# Altium schematic symbol library new-version.SchLib: 263 symbols
Pins are listed as number, name and electrical type; pins without a type are passive.

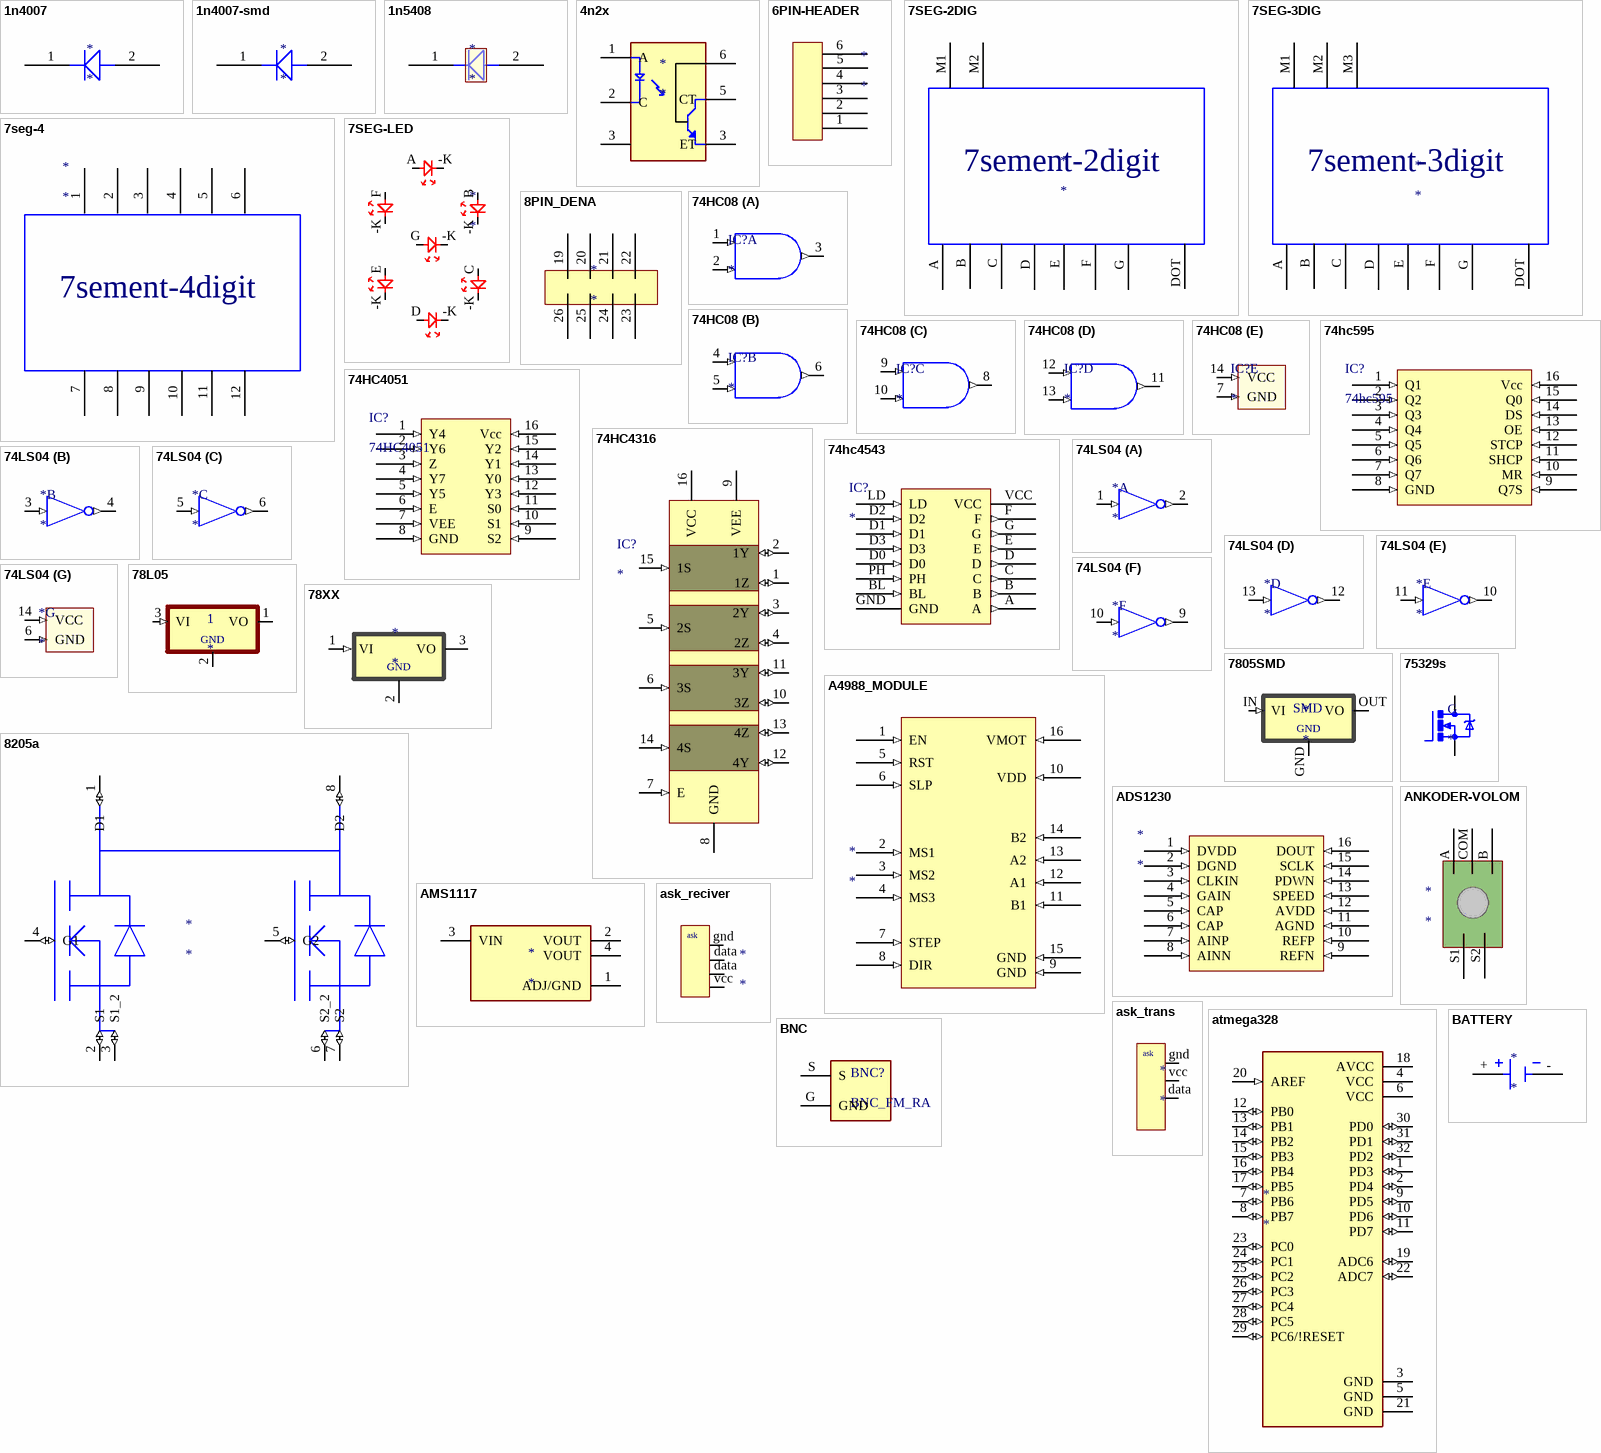
[diagram p0: symbols 1n4007 to BNC]

## 1n4007
designator *
footprint 1n4007
pins: 1, 2

## 1n4007-smd
designator *
footprint 1n4007-smd
pins: 1, 2

## 1n5408
designator *
footprint 1n5408
pins: 1, 2

## 4n2x
designator *
pins: 1 A, 2 C, 3 ET, 3 C, 5 CT, 6 CT

## 6PIN-HEADER
designator *
footprint 6PIN
pins: 1 (oc), 2 (oc), 3 (oc), 4 (oc), 5 (oc), 6 (oc)

## 7SEG-2DIG
designator *
footprint 7SEG-2DIG
pins: A  , B  , C  , D  , DOT  , E  , F  , G  , M1  , M2  
text: 7sement-2digit

## 7SEG-3DIG
designator *
footprint 7seg-3d
footprint 7SEG_3D_LITTLE
pins: A  , B  , C  , D  , DOT  , E  , F  , G  , M1  , M2  , M3  
text: 7sement-3digit

## 7seg-4
designator *
footprint 7seg-4digit
pins: 1  , 2  , 3  , 4  , 5  , 6  , 7  , 8  , 9  , 10  , 11  , 12  
text: 7sement-4digit

## 7SEG-LED
designator *
footprint 7SEG-LED
pins: -K, -K, -K, -K, -K, -K, -K, A, B, C, D, E, F, G

## 8PIN_DENA
designator *
footprint 8PIN_DENA
pins: 19 (oc), 20 (oc), 21 (oc), 22 (oc), 23 (oc), 24 (oc), 25 (oc), 26 (oc)

## 74HC08
designator IC?
footprint SOP-14
part A pins: 1 (in), 2 (in), 3 (out)
part B pins: 4 (in), 5 (in), 6 (out)
part C pins: 8 (out), 9 (in), 10 (in)
part D pins: 11 (out), 12 (in), 13 (in)
part E pins: 7 GND (in), 14 VCC (in)

## 74hc595
designator IC?
footprint SOP16
pins: 1 Q1 (in), 2 Q2 (in), 3 Q3 (in), 4 Q4 (in), 5 Q5 (in), 6 Q6 (in), 7 Q7 (in), 8 GND (in), 9 Q7S (in), 10 MR (in), 11 SHCP (in), 12 STCP (in), 13 OE (in), 14 DS (in), 15 Q0 (in), 16 Vcc (in)

## 74HC4051
designator IC?
Analog SWITCH
footprint SOP16
pins: 1 Y4 (in), 2 Y6 (in), 3 Z (in), 4 Y7 (in), 5 Y5 (in), 6 E (in), 7 VEE (in), 8 GND (in), 9 S2 (in), 10 S1 (in), 11 S0 (in), 12 Y3 (in), 13 Y0 (in), 14 Y1 (in), 15 Y2 (in), 16 Vcc (in)

## 74HC4316
designator IC?
footprint SOP16
pins: 1 1Z (io), 2 1Y (io), 3 2Y (io), 4 2Z (io), 5 2S (in), 6 3S (in), 7 E (in), 8 GND (power), 9 VEE (power), 10 3Z (io), 11 3Y (io), 12 4Y (io), 13 4Z (io), 14 4S (in), 15 1S (in), 16 VCC (power)

## 74hc4543
designator IC?
footprint 74HC4543-DIP
pins: A (out), B (out), BL (in), C (out), D (out), D0 (in), D1 (in), D2 (in), D3 (in), E (out), F (out), G (out), GND (power), LD (in), PH (in), VCC (power)

## 74LS04
designator *
part A pins: 1 A (in), 2 Y (out)
part B pins: 3 A (in), 4 Y (out)
part C pins: 5 A (in), 6 Y (out)
part D pins: 12 Y (out), 13 A (in)
part E pins: 10 Y (out), 11 A (in)
part F pins: 9 Y (out), 10 A (in)
part G pins: 6 GND (in), 14 VCC (in)

## 78L05
designator 1
footprint TO-220
pins: 1 VO, 2 GND, 3 VI (in)

## 78XX
designator *
footprint TO220AB
pins: 1 VI (in), 2 GND, 3 VO

## 7805SMD
designator *
footprint 7805-SMD
pins: GND, IN VI (in), OUT VO
text: SMD

## 8205a
designator *
footprint TSSOP8
pins: 1 D1 (io), 2 S1 (io), 3 S1_2 (io), 4 G1 (io), 5 G2 (io), 6 S2_2 (io), 7 S2 (io), 8 D2 (io)

## 75329s
designator G
footprint 75329s
pins: D, G, S

## A4988_MODULE
designator *
footprint A4988_MODULE
pins: 1 EN (in), 2 MS1 (in), 3 MS2 (in), 4 MS3 (in), 5 RST (in), 6 SLP (in), 7 STEP (in), 8 DIR (in), 9 GND (in), 10 VDD (in), 11 B1 (in), 12 A1 (in), 13 A2 (in), 14 B2 (in), 15 GND (in), 16 VMOT (in)

## ADS1230
designator *
footprint TSSOP-16
pins: 1 DVDD (in), 2 DGND (in), 3 CLKIN (in), 4 GAIN (in), 5 CAP (in), 6 CAP (in), 7 AINP (in), 8 AINN (in), 9 REFN (in), 10 REFP (in), 11 AGND (in), 12 AVDD (in), 13 SPEED (in), 14 PDWN (in), 15 SCLK (in), 16 DOUT (in)

## AMS1117
designator *
footprint AMS1117
pins: 1 ADJ/GND (power), 2 VOUT (power), 3 VIN (power), 4 VOUT (power)

## ANKODER-VOLOM
designator *
footprint ANKODER_VOLOM
pins: A  , B  , COM  , S1  , S2  

## ask_reciver
designator *
footprint ask_reciver
pins: data  , data  , gnd  , vcc  
text: ask

## ask_trans
designator *
footprint ask_tras
pins: data  , gnd  , vcc  
text: ask

## atmega328
designator *
footprint atmega328_ TQFP-32
pins: 1 PD3 (io), 2 PD4 (io), 3 GND (power), 4 VCC (power), 5 GND (power), 6 VCC (power), 7 PB6 (io), 8 PB7 (io), 9 PD5 (io), 10 PD6 (io), 11 PD7 (io), 12 PB0 (io), 13 PB1 (io), 14 PB2 (io), 15 PB3 (io), 16 PB4 (io), 17 PB5 (io), 18 AVCC (power), 19 ADC6 (io), 20 AREF (in), 21 GND (power), 22 ADC7 (io), 23 PC0 (io), 24 PC1 (io), 25 PC2 (io), 26 PC3 (io), 27 PC4 (io), 28 PC5 (io), 29 PC6/!RESET (io), 30 PD0 (io), 31 PD1 (io), 32 PD2 (io)

## BATTERY
designator *
footprint CR2032
pins: + POS, - NEG

## BNC
designator BNC?, comment BNC_FM_RA
footprint BNC_FM_RA
pins: G GND (power), S

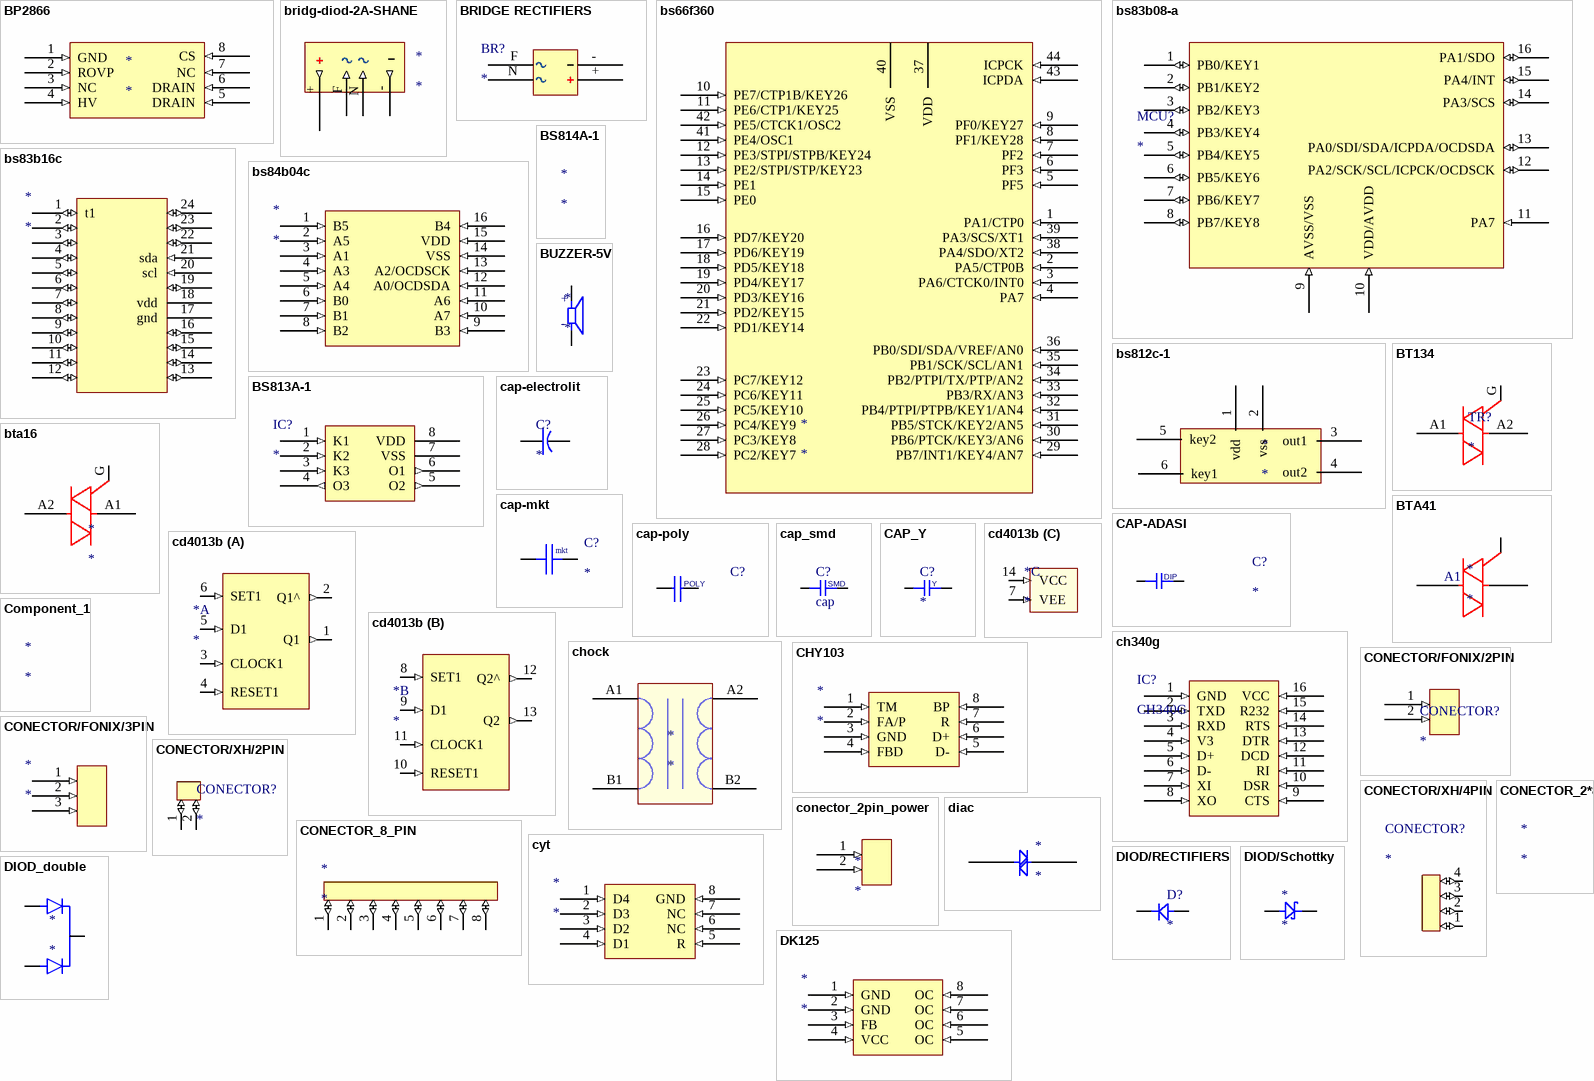
[diagram p1: symbols BP2866 to DK125]

## BP2866
designator *
footprint SOP-8
pins: 1 GND (in), 2 ROVP (in), 3 NC (in), 4 HV (in), 5 DRAIN (in), 6 DRAIN (in), 7 NC (in), 8 CS (in)

## bridg-diod-2A-SHANE
designator *
footprint bridg-diod-2A-SHANE
pins: + (out), - (out), F   (in), N (in)

## BRIDGE RECTIFIERS
designator BR?
footprint MB6S/SMD
footprint BRIDGE_GBU410
footprint KBP206
pins: + (power), - (power), F   (power), N (power)

## bs66f360
designator *
footprint bs66f360
pins: 1 PA1/CTP0 (in), 2 PA5/CTP0B (in), 3 PA6/CTCK0/INT0 (in), 4 PA7 (in), 5 PF5 (in), 6 PF3 (in), 7 PF2 (in), 8 PF1/KEY28 (in), 9 PF0/KEY27 (in), 10 PE7/CTP1B/KEY26 (in), 11 PE6/CTP1/KEY25 (in), 12 PE3/STPI/STPB/KEY24 (in), 13 PE2/STPI/STP/KEY23 (in), 14 PE1 (in), 15 PE0 (in), 16 PD7/KEY20 (in), 17 PD6/KEY19 (in), 18 PD5/KEY18 (in), 19 PD4/KEY17 (in), 20 PD3/KEY16 (in), 21 PD2/KEY15 (in), 22 PD1/KEY14 (in), 23 PC7/KEY12 (in), 24 PC6/KEY11 (in), 25 PC5/KEY10 (in), 26 PC4/KEY9 (in), 27 PC3/KEY8 (in), 28 PC2/KEY7 (in), 29 PB7/INT1/KEY4/AN7 (in), 30 PB6/PTCK/KEY3/AN6 (in), 31 PB5/STCK/KEY2/AN5 (in), 32 PB4/PTPI/PTPB/KEY1/AN4 (in), 33 PB3/RX/AN3 (in), 34 PB2/PTPI/TX/PTP/AN2 (in), 35 PB1/SCK/SCL/AN1 (in), 36 PB0/SDI/SDA/VREF/AN0 (in), 37 VDD (power), 38 PA4/SDO/XT2 (in), 39 PA3/SCS/XT1 (in), 40 VSS (power), 41 PE4/OSC1 (in), 42 PE5/CTCK1/OSC2 (in), 43 ICPDA (in) "SDA", 44 ICPCK (in) "SCK"

## bs83b08-a
designator MCU?
footprint bs83b08-a
pins: 1 PB0/KEY1 (io), 2 PB1/KEY2 (io), 3 PB2/KEY3 (io), 4 PB3/KEY4 (io), 5 PB4/KEY5 (io), 6 PB5/KEY6 (io), 7 PB6/KEY7 (io), 8 PB7/KEY8 (io), 9 AVSS/VSS (in), 10 VDD/AVDD (in), 11 PA7 (in), 12 PA2/SCK/SCL/ICPCK/OCDSCK (io), 13 PA0/SDI/SDA/ICPDA/OCDSDA (io), 14 PA3/SCS (io), 15 PA4/INT (io), 16 PA1/SDO (io)

## bs83b16c
designator *
footprint bs83b16c
pins: 1 t1 (io), 2 (io), 3 (io), 4 (io), 5 (io), 6 (io), 7 (io), 8 (io), 9 (io), 10 (io), 11 (io), 12 (io), 13 (io), 14 (io), 15 (io), 16 (io), 17 gnd (power), 18 vdd (power), 19 (io), 20 scl (in), 21 sda (in), 22 (io), 23 (io), 24 (io)

## bs84b04c
designator *
footprint SOP16
pins: 1 B5 (in), 2 A5 (in), 3 A1 (in), 4 A3 (in), 5 A4 (in), 6 B0 (in), 7 B1 (in), 8 B2 (in), 9 B3 (in), 10 A7 (in), 11 A6 (in), 12 A0/OCDSDA (in), 13 A2/OCDSCK (in), 14 VSS (in), 15 VDD (in), 16 B4 (in)

## bs812c-1
designator *
footprint bs812c-1
footprint bs812c-1
pins: 1 vdd, 2  vss, 3 out1, 4 out2, 5 key2, 6 key1

## BS813A-1
designator IC?
footprint SOP-8
pins: 1 K1 (in), 2 K2 (in), 3 K3 (in), 4 O3 (out), 5 O2 (out), 6 O1 (out), 7 VSS (power), 8 VDD (power)

## BS814A-1
designator *

## BT134
designator TR?
footprint bt134
pins: A1, A2, G

## bta16
designator *
footprint bta16
footprint BTA16-V2\ (Triak v2)
footprint BTA16-V3 - duplicate
footprint BTA16_TOPOL
footprint BTA16_KIRI
pins: A1, A2, G

## BTA41
designator *
footprint TOP3
pins: 1 A1, 2, 3

## BUZZER-5V
designator *
footprint BUZZER-5V
pins: N, P
text: +; -

## CAP-ADASI
designator C?
footprint CAP-100NF
footprint CAP_CERAMIC
pins: 1  , 2  
text: DIP

## cap-electrolit
designator C?
footprint cap/330u/16v
footprint CAP/2200U/16V
footprint CAP/10U/50V
footprint cap/10u/400v
footprint CAP/1000U/25V
footprint CAP/220uF/16v/smd
footprint CAP/2.2uF/400v
footprint CAP-EL_P5MM
footprint CAP-EL-P3.5MM
footprint CAP-1000uF-16V
footprint CAP-400V-33uF
footprint CAP-EL-P9mm
footprint CAP-EL-P100mil
footprint CAP-EL-8mm
footprint CAP-EL-P7MM
footprint CAP-EL-P10MM
footprint CAP-EL-P5mm/D12.7mm
footprint Tantalum Case B
pins: +  , -  

## cap-mkt
designator C?
footprint CAP/0.22uF/275v/mkt
footprint CAP-MKT-0.47uf-275V
footprint mkt_120nf_630v
footprint MKT_P10mm
pins: 1  , 2  
text: mkt

## cap-poly
designator C?
footprint CAP/100nF/275V/poly
footprint CAP-POLY-0.47uF-400V
footprint CAP-POLY-2.2uF/400V
footprint CAP-POLY-10mm
pins: 1  , 2  
text: POLY

## cap_smd
designator C?, comment cap
footprint CAP-1206
footprint CAP-0805
footprint CAP-0603
pins: 1  , 2  
text: SMD

## CAP_Y
designator C?
footprint CAP_Y_1KV
footprint CAP_Y_2KV
footprint CAP_Y_4KV
pins: 1  , 2  
text: Y

## cd4013b
designator *
part A pins: 1 Q1 (out), 2 Q1^ (out), 3 CLOCK1 (in), 4 RESET1 (in), 5 D1 (in), 6 SET1 (in)
part B pins: 8 SET1 (in), 9 D1 (in), 10 RESET1 (in), 11 CLOCK1 (in), 12 Q2^ (out), 13 Q2 (out)
part C pins: 7 VEE (in), 14 VCC (in)

## ch340g
designator IC?, comment CH340G
footprint SOP16
pins: 1 GND (in), 2 TXD (in), 3 RXD (in), 4 V3 (in), 5 D+ (in), 6 D- (in), 7 XI (in), 8 XO (in), 9 CTS (in), 10 DSR (in), 11 RI (in), 12 DCD (in), 13 DTR (in), 14 RTS (in), 15 R232 (in), 16 VCC (in)

## chock
designator *
footprint chock
pins: A1, A2, B1, B2

## CHY103
designator *
footprint SOP-8
pins: 1 TM (in), 2 FA/P (in), 3 GND (in), 4 FBD (in), 5 D- (in), 6 D+ (in), 7 R (in), 8 BP (in)

## Component_1
designator *

## CONECTOR/FONIX/2PIN
designator CONECTOR?
footprint CONECTOR/FONIX/2PIN
pins: 1 (in), 2 (in)

## CONECTOR/FONIX/3PIN
designator *
footprint CONECTOR/FONIX/3PIN
pins: 1 (in), 2 (in), 3 (in)

## CONECTOR/XH/2PIN
designator CONECTOR?
footprint CONECTOR/XH/2PIN
footprint XH_BIG_2PIN
pins: 1 (io), 2 (io)

## CONECTOR/XH/4PIN
designator CONECTOR?
footprint CONECTOR/XH/4PIN
footprint prog_little
pins: 1 (io), 2 (io), 3 (io), 4 (io)

## CONECTOR_2*8
designator *

## conector_2pin_power
designator *
footprint MSTBA 2,5
pins: 1 (in), 2 (in)

## CONECTOR_8_PIN
designator *
footprint FONIX_8_PIN
pins: 1 (io), 2 (io), 3 (io), 4 (io), 5 (io), 6 (io), 7 (io), 8 (io)

## cyt
designator *
pins: 1 D4 (in), 2 D3 (in), 3 D2 (in), 4 D1 (in), 5 R (in), 6 NC (in), 7 NC (in), 8 GND (in)

## diac
designator *
footprint DIAK_SMD
pins: 1  , 2  

## DIOD/RECTIFIERS
designator D?
footprint DIOD/1N4007/DIP
footprint DIOD/1N4007/SMD
footprint DIOD/1n5408
footprint DIOD/RS1J
footprint mini_melf
footprint SS34_L
footprint DIOD-ISTADE
footprint TO220-2L
pins: A, K

## DIOD/Schottky
designator *
footprint SR310
pins: A, K

## DIOD_double
designator *
footprint TO-3P
footprint TO220AB
pins: 1 A1, 2 C, 3 A2

## DK125
designator *
footprint DIP8
pins: 1 GND (in), 2 GND (in), 3 FB (in), 4 VCC (in), 5 OC (in), 6 OC (in), 7 OC (in), 8 OC (in)

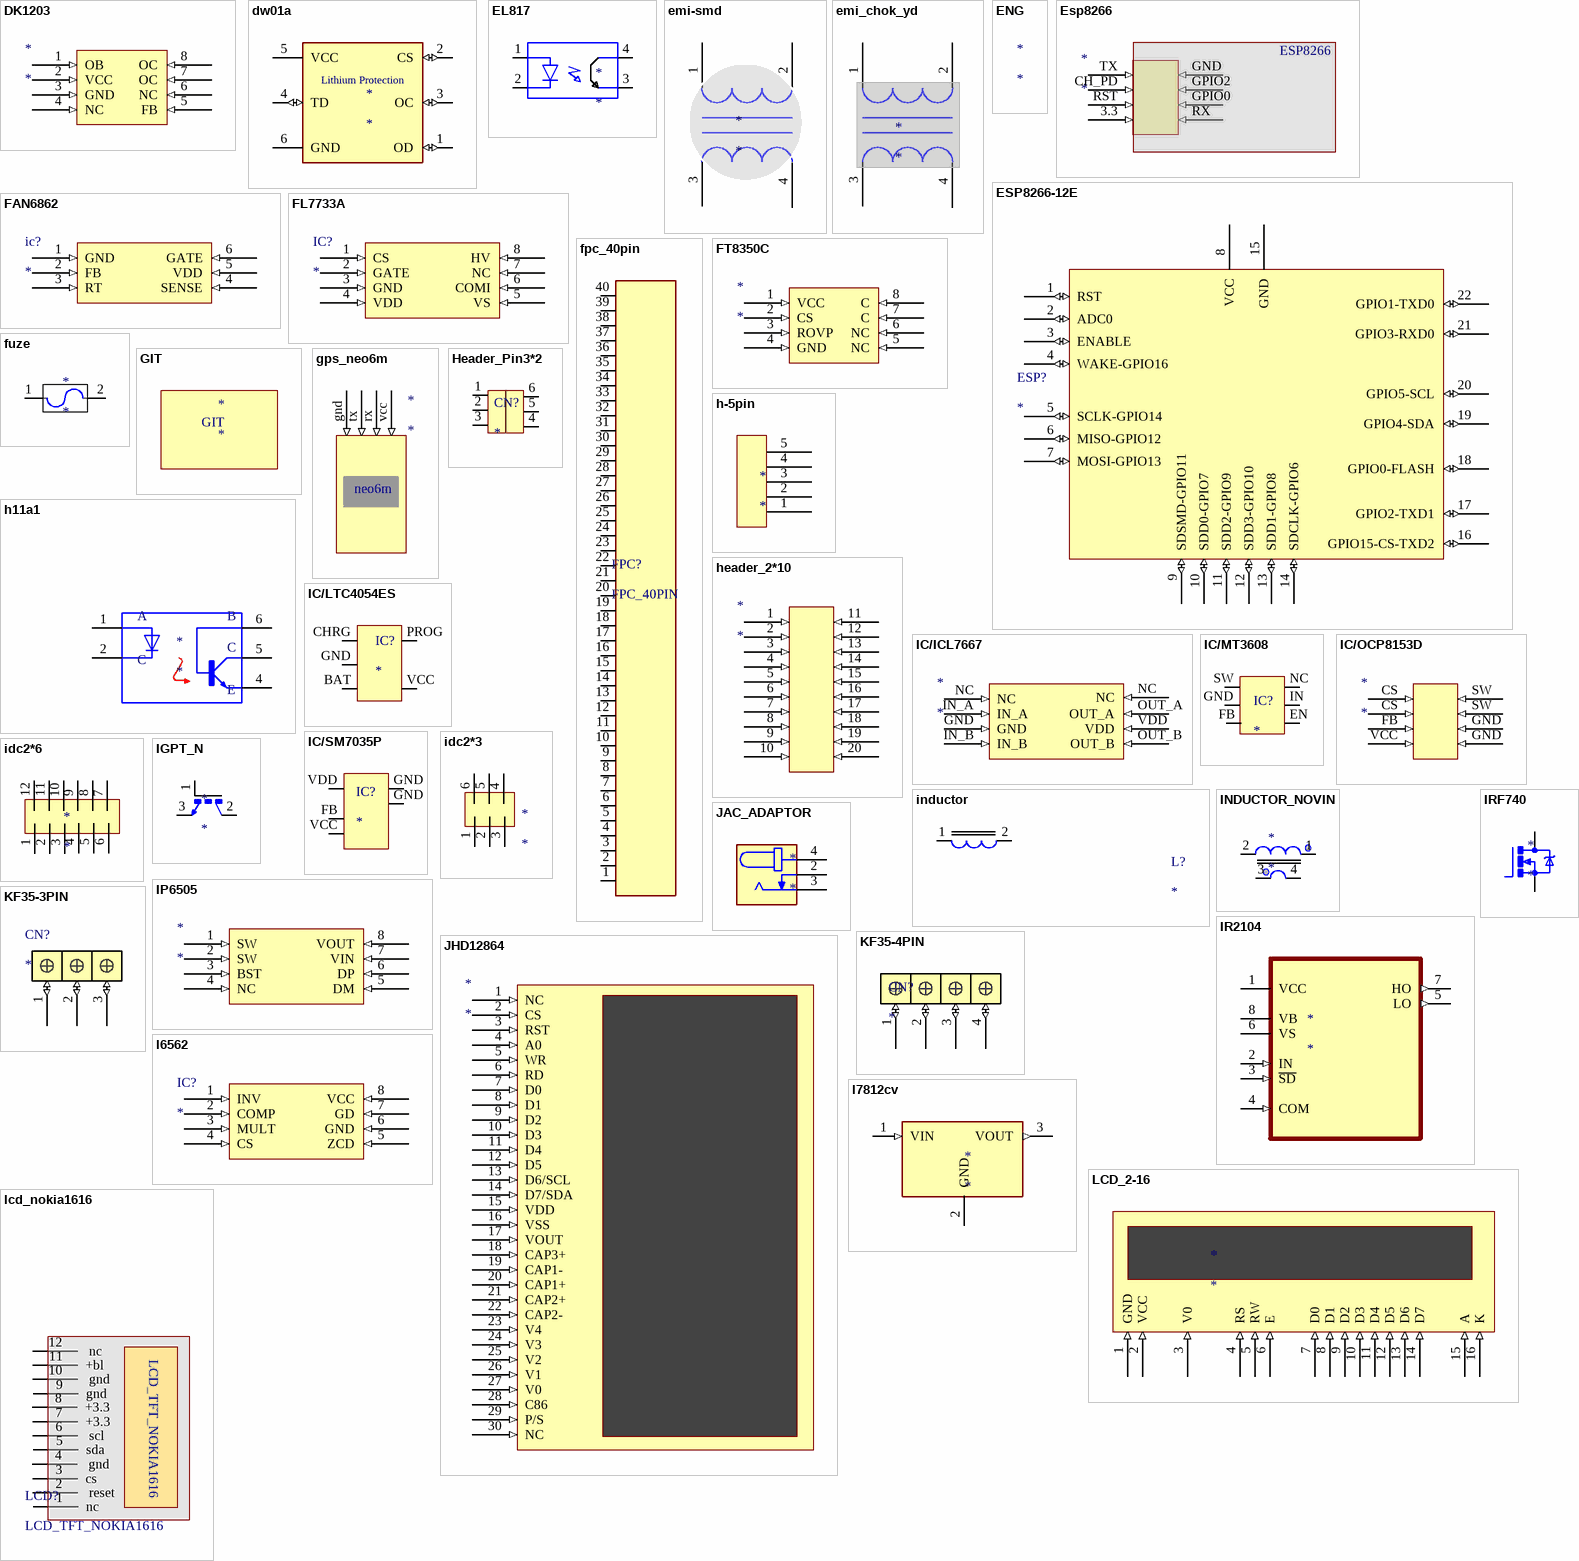
[diagram p2: symbols DK1203 to lcd_nokia1616]

## DK1203
designator *
footprint DIP8
pins: 1 OB (in), 2 VCC (in), 3 GND (in), 4 NC (in), 5 FB (in), 6 NC (in), 7 OC (in), 8 OC (in)

## dw01a
designator *
footprint dw01a
pins: 1 OD (io), 2 CS (io), 3 OC (io), 4 TD (io), 5 VCC (power), 6 GND (power)
text: Lithium Protection

## EL817
designator *
footprint EL817
pins: 1 ANODE, 2 CATODE, 3 MAIN_TERM2, 4 MAIN_TERM1

## emi-smd
designator *
footprint emi-smd
pins: 1, 2, 3, 4

## emi_chok_yd
designator *
footprint emi_chok_yd
footprint EMI_MID
pins: 1, 2, 3, 4

## ENG
designator *
footprint J1

## Esp8266
designator *
footprint ESP8266
pins: 3.3 (in), CH_PD (in), GND (in), GPIO0 (in), GPIO2 (in), RST (in), RX (in), TX (in)
text: ESP8266

## ESP8266-12E
designator ESP?
footprint ESP8266-12E
pins: 1 RST (io), 2 ADC0 (io), 3 ENABLE (io), 4 WAKE-GPIO16 (io), 5 SCLK-GPIO14 (io), 6 MISO-GPIO12 (io), 7 MOSI-GPIO13 (io), 8 VCC (power), 9 SDSMD-GPIO11 (io), 10 SDD0-GPIO7 (io), 11 SDD2-GPIO9 (io), 12 SDD3-GPIO10 (io), 13 SDD1-GPIO8 (io), 14 SDCLK-GPIO6 (io), 15 GND (power), 16 GPIO15-CS-TXD2 (io), 17 GPIO2-TXD1 (io), 18 GPIO0-FLASH (io), 19 GPIO4-SDA (io), 20 GPIO5-SCL (io), 21 GPIO3-RXD0 (io), 22 GPIO1-TXD0 (io)

## FAN6862
designator ic?
pins: 1 GND (in), 2 FB (in), 3 RT (in), 4 SENSE (in), 5 VDD (in), 6 GATE (in)

## FL7733A
designator IC?
pins: 1 CS (in), 2 GATE (in), 3 GND (in), 4 VDD (in), 5 VS (in), 6 COMI (in), 7 NC (in), 8 HV (in)

## fpc_40pin
designator FPC?, comment FPC_40PIN
footprint fpc_40pin_0.5mm
pins: 1 40, 2 39, 3 38, 4 37, 5 36, 6 35, 7 34, 8 33, 9 32, 10 31, 11 30, 12 29, 13 28, 14 27, 15 26, 16 25, 17 24, 18 23, 19 22, 20 21, 21 20, 22 19, 23 18, 24 17, 25 16, 26 15, 27 14, 28 13, 29 12, 30 11, 31 10, 32 9, 33 8, 34 7, 35 6, 36 5, 37 4, 38 3, 39 2, 40 1

## FT8350C
designator *
footprint SOP-8
pins: 1 VCC (in), 2 CS (in), 3 ROVP (in), 4 GND (in), 5 NC (in), 6 NC (in), 7 C (in), 8 C (in)

## fuze
designator *
footprint fuze_glass
footprint FUZE_GLASS_ISTADE
footprint FUSE_GLASS_BIG
footprint FUZE_CAR
pins: 1, 2  

## GIT
designator *

## gps_neo6m
designator *
footprint gps_neo6m
pins: gnd (in), rx (in), tx (in), vcc (in)
text: neo6m

## h11a1
designator *
footprint h11a1
pins: 1 A, 2 C, 4 E, 5 C`, 6 B

## h-5pin
designator *
footprint h-5pin
pins: 1 (oc), 2 (oc), 3 (oc), 4 (oc), 5 (oc)

## header_2*10
designator *
footprint XH_10*2
pins: 1 (in), 2 (in), 3 (in), 4 (in), 5 (in), 6 (in), 7 (in), 8 (in), 9 (in), 10 (in), 11 (in), 12 (in), 13 (in), 14 (in), 15 (in), 16 (in), 17 (in), 18 (in), 19 (in), 20 (in)

## Header_Pin3*2
designator CN?
footprint Header_pin3*2
pins: 1 (power), 2 (power), 3 (power), 4 (power), 5 (power), 6 (power)

## IC/ICL7667
designator *
footprint ICL7667
pins: GND (in), IN_A (in), IN_B (in), NC (in), NC (in), OUT_A (in), OUT_B (in), VDD (in)

## IC/LTC4054ES
designator IC?
footprint IC/LTC4045ES
pins: BAT, CHRG, GND, PROG, VCC

## IC/MT3608
designator IC?
footprint IC/MT3608
pins: EN, FB, GND, IN, NC, SW

## IC/OCP8153D
designator *
footprint IC/OCP8153
pins: CS (in), CS (in), FB (in), GND (in), GND (in), SW (in), SW (in), VCC (in)

## IC/SM7035P
designator IC?
footprint IC/SM7035P
pins: FB, GND, GND, VCC, VDD

## idc2*3
designator *
footprint idc2*3
pins: 1 (oc), 2 (oc), 3 (oc), 4 (oc), 5 (oc), 6 (oc)

## idc2*6
designator *
footprint idc2*6
pins: 1 (oc), 2 (oc), 3 (oc), 4 (oc), 5 (oc), 6 (oc), 7 (oc), 8 (oc), 9 (oc), 10 (oc), 11 (oc), 12 (oc)

## IGPT_N
designator *
pins: 1 G, 2 C, 3 E

## inductor
designator L?
footprint inductor-9*12
footprint RES/0.25W
footprint core-80-26
footprint INDUCTOR_8026_R
footprint RES/1206
footprint INDUCTOR_T30mm
footprint INDUCTOR_troid_16mm
footprint INDUCTOR-10*16
footprint inductor_30-12
footprint core-troid-20mm
footprint INDUCTOR_20-27
footprint EI-28-SELF_DC
footprint EE-42-21-15 - INDUCTOR
footprint NR3015T
pins: 1, 2

## INDUCTOR_NOVIN
designator *
footprint PQ2625
footprint pq2625/2
pins: 1, 2, 3, 4

## IP6505
designator *
footprint SOP-8
pins: 1 SW (in), 2 SW (in), 3 BST (in), 4 NC (in), 5 DM (in), 6 DP (in), 7 VIN (in), 8 VOUT (in)

## IR2104
designator *
footprint IR2401
footprint SOP-8
pins: 1 VCC (power), 2 IN (in), 3 ~{SD} (in), 4 COM (in), 5 LO (out), 6 VS (power), 7 HO (out), 8 VB (power)

## IRF740
designator *
footprint IRF740
pins: D, G, S

## JAC_ADAPTOR
designator *
footprint dc005
pins: 2 4, 3 5, 4 2

## JHD12864
designator *
footprint JHD12864
pins: 1 NC (in), 2 CS (in), 3 RST (in), 4 A0 (in), 5 WR (in), 6 RD (in), 7 D0 (in), 8 D1 (in), 9 D2 (in), 10 D3 (in), 11 D4 (in), 12 D5 (in), 13 D6/SCL (in), 14 D7/SDA (in), 15 VDD (in), 16 VSS (in), 17 VOUT (in), 18 CAP3+ (in), 19 CAP1- (in), 20 CAP1+ (in), 21 CAP2+ (in), 22 CAP2- (in), 23 V4 (in), 24 V3 (in), 25 V2 (in), 26 V1 (in), 27 V0 (in), 28 C86 (in), 29 P/S (in), 30 NC (in)

## KF35-3PIN
designator CN?
footprint KF35-3PIN
footprint XH3_BIG
pins: 1 (io), 2 (io), 3 (io)

## KF35-4PIN
designator CN?
footprint KF35-4PIN
pins: 1 (io), 2 (io), 3 (io), 4 (io)

## l6562
designator IC?
pins: 1 INV (in), 2 COMP (in), 3 MULT (in), 4 CS (in), 5 ZCD (in), 6 GND (in), 7 GD (in), 8 VCC (in)

## l7812cv
designator *
footprint l7812cv
pins: 1 VIN (in), 2 GND (power), 3 VOUT (out)

## LCD_2-16
designator *
footprint LCD_2-16_V1
pins: 1 GND (in), 2 VCC (in), 3 V0 (in), 4 RS (in), 5 RW (in), 6 E (in), 7 D0 (in), 8 D1 (in), 9 D2 (in), 10 D3 (in), 11 D4 (in), 12 D5 (in), 13 D6 (in), 14 D7 (in), 15 A (in), 16 K (in)

## lcd_nokia1616
designator LCD?, comment LCD_TFT_NOKIA1616
footprint lcd1616-flat
pins: 1 nc, 2  reset, 3 cs, 4  gnd, 5 sda, 6  scl, 7 +3.3, 8 +3.3, 9 gnd, 10  gnd, 11 +bl, 12  nc

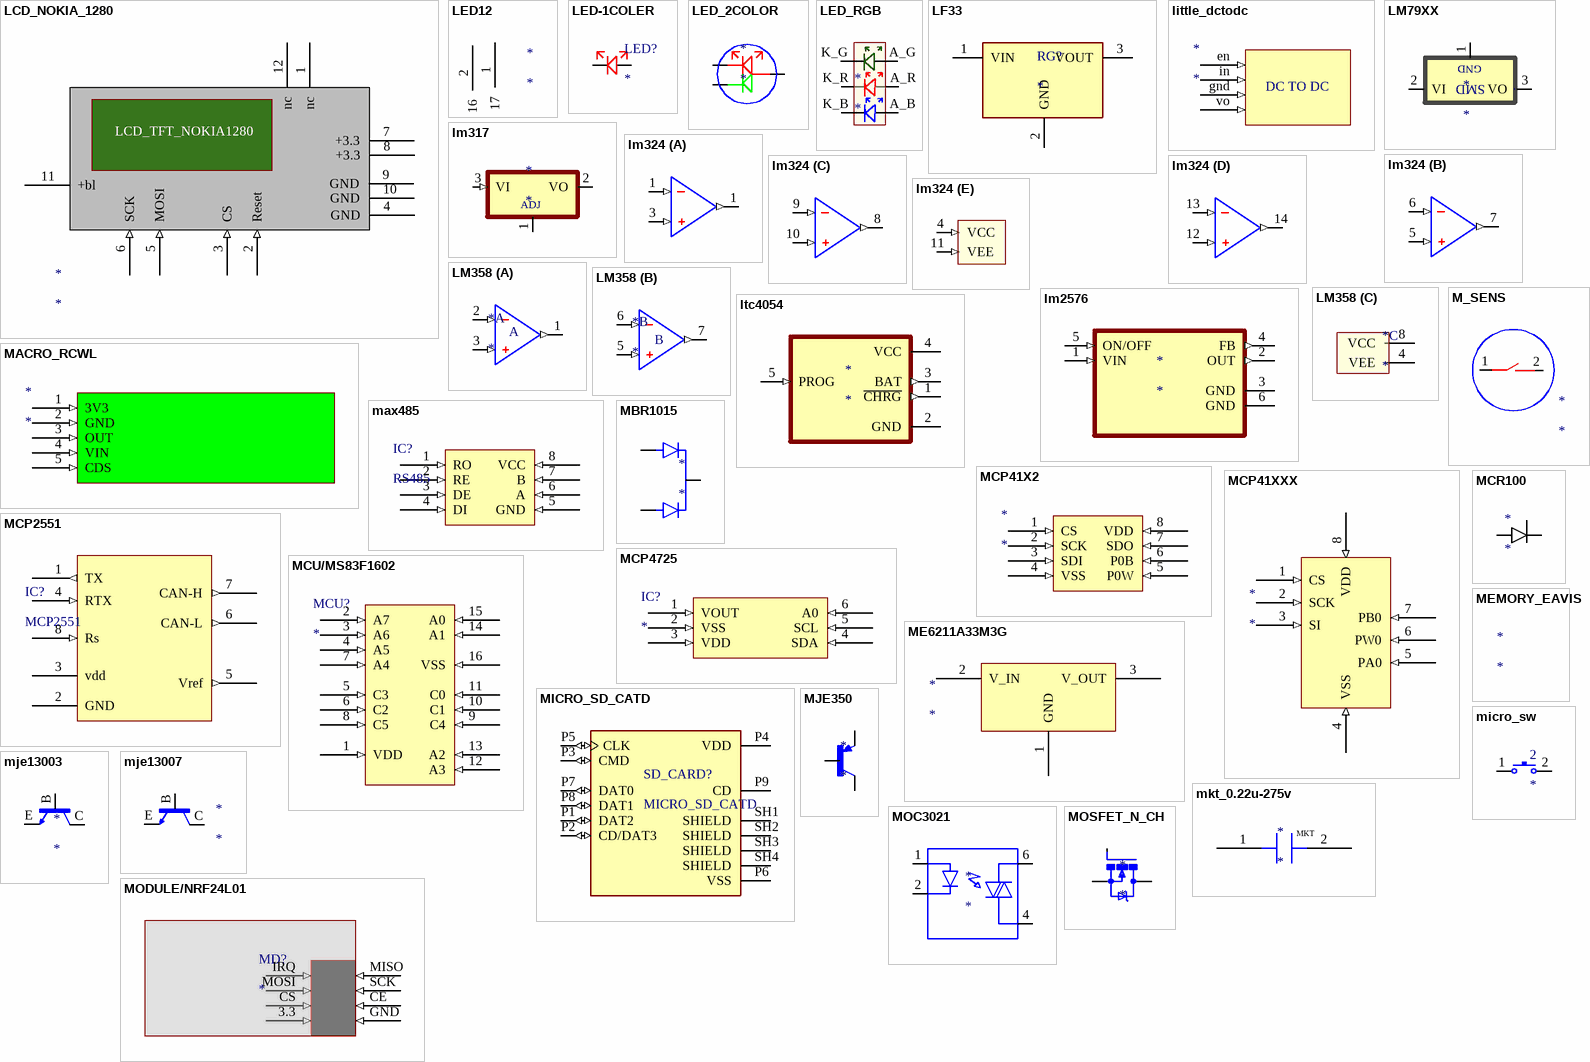
[diagram p3: symbols LCD_NOKIA_1280 to MOSFET_N_CH]

## LCD_NOKIA_1280
designator *
footprint LCD_1202
pins: 1 nc, 2 Reset (in), 3 CS (in), 4 GND, 5 MOSI (in), 6 SCK (in), 7 +3.3, 8 +3.3, 9 GND, 10 GND, 11 +bl, 12  nc
text: LCD_TFT_NOKIA1280

## LED12
designator *
footprint LED3030
pins: 1 17, 2 16

## LED-1COLER
designator LED?
footprint LED/0805
footprint led/3MM/DIP
footprint LED/5630
footprint LED2835
footprint led_dip_5mm
footprint led_dip_5mm
footprint led_dip_5MM_T
footprint LED-1206
footprint LED_3W
pins: A, K

## LED_2COLOR
designator *
footprint LED_DIP_2COLOR_ANODE
pins: A, K_GREEN, K_RED

## LED_RGB
designator *
footprint LED/RGB/5050
footprint led_rgb5050+dip
pins: A_B, A_G, A_R, K_B, K_G, K_R

## LF33
designator RG?
footprint DPAK
pins: 1 VIN (power), 2 GND (power), 3 VOUT (power)

## little_dctodc
designator *
footprint little_dctodc
pins: en (in), gnd (in), in (in), vo (in)
text: DC TO DC

## LM79XX
designator *
footprint TO-220
pins: 1 GND (power), 2 VI (power), 3 VO (power)
text: SMD

## lm317
designator *
footprint TO-220
pins: 1 adj, 2 VO, 3 VI (in)
text: ADJ

## lm324
designator *  (value not drawn)
part A pins: 1 (in), 1 (out), 3 (in)
part B pins: 5 (in), 6 (in), 7 (out)
part C pins: 8 (out), 9 (in), 10 (in)
part D pins: 12 (in), 13 (in), 14 (out)
part E pins: 4 VCC (in), 11 VEE (in)
1 alternate drawing of the same symbol

## LM358
designator *
footprint SOP-8
part A pins: 1 (out), 2 (in), 3 (in)
part B pins: 5 (in), 6 (in), 7 (out)
part C pins: 4 VEE (power), 8 VCC (power)
part A text: A
part B text: B

## lm2576
designator *
footprint lm2576
pins: 1 VIN (in), 2 OUT (out), 3 GND (power), 4 FB (out), 5 ON/OFF (in), 6 GND (power)

## ltc4054
designator *
footprint ltc4054
pins: 1 ~{CHRG} (out), 2 GND (power), 3 BAT (out), 4 VCC (power), 5 PROG (in)

## M_SENS
designator *
footprint M_SEN
pins: 1  , 2  

## MACRO_RCWL
designator *
footprint MACRO_R
pins: 1 3V3 (in), 2 GND (in), 3 OUT (in), 4 VIN (in), 5 CDS (in)

## max485
designator IC?, comment RS485
footprint SOP-8
pins: 1 RO (in), 2 RE (in), 3 DE (in), 4 DI (in), 5 GND (in), 6 A (in), 7 B (in), 8 VCC (in)

## MBR1015
designator *
footprint MBR1015
pins: 1 A1, 2 C, 3 A2

## MCP41X2
designator *
pins: 1 CS (in), 2 SCK (in), 3 SDI (in), 4 VSS (in), 5 P0W (in), 6 P0B (in), 7 SDO (in), 8 VDD (in)

## MCP41XXX
designator *
footprint SOP-8
pins: 1 CS (in), 2 SCK (in), 3 SI (in), 4 VSS (in), 5 PA0 (in), 6 PW0 (in), 7 PB0 (in), 8 VDD (in)

## MCP2551
designator IC?
footprint SOP-8
pins: 1 TX (out), 2 GND (power), 3 vdd (power), 4 RTX (in), 5 Vref (out), 6 CAN-L (out), 7 CAN-H (out), 8 Rs (in)

## MCP4725
designator IC?
footprint SOT-23-6
pins: 1 VOUT (in), 2 VSS (in), 3 VDD (in), 4 SDA (in), 5 SCL (in), 6 A0 (in)

## MCR100
designator *
footprint TO-225
pins: 1 A, 2 G, 3 C

## MCU/MS83F1602
designator MCU?
footprint MCU/MS83F1602
pins: 1 VDD (in), 2 A7 (in), 3 A6 (in), 4 A5 (in), 5 C3 (in), 6 C2 (in), 7 A4 (in), 8 C5 (in), 9 C4 (in), 10 C1 (in), 11 C0 (in), 12 A3 (in), 13 A2 (in), 14 A1 (in), 15 A0 (in), 16 VSS (in)

## ME6211A33M3G
designator *
footprint SOT23
pins: 1 GND (power), 2 V_IN (power), 3 V_OUT (power)

## MEMORY_EAVIS
designator *
footprint MEMORY_RAVIS

## MICRO_SD_CATD
designator SD_CARD?
footprint micro_sd_TFP-09
pins: P1 DAT2 (io), P2 CD/DAT3 (io), P3 CMD (io), P4 VDD (power), P5 CLK (io), P6 VSS (power), P7 DAT0 (io), P8 DAT1 (io), P9 CD, SH1 SHIELD (power), SH2 SHIELD (power), SH3 SHIELD (power), SH4 SHIELD (power)

## micro_sw
designator 2
footprint micro_sw
footprint micro_sw_topol
footprint micro_switch_smd
footprint micro-sw-little
footprint MICRO_SWITCH_RAVIS
pins: 1  , 2  

## MJE350
designator *
footprint MJE350
pins: 1 E, 2 C, 3 B

## mje13003
designator *
footprint MJE13003
pins: B, C, E

## mje13007
designator *
footprint mje13007
pins: B, C, E

## mkt_0.22u-275v
designator *
footprint mkt-0.22u-275v
footprint MKT_P10mm
pins: 1, 2
text: MKT

## MOC3021
designator *
footprint MOC3021
pins: 1 ANODE, 2 CATODE, 4 MAIN_TERM2, 6 MAIN_TERM1

## MODULE/NRF24L01
designator MD?
footprint MUDOLE/NRF24L01
pins: 3.3 (in), CE (in), CS (in), GND (in), IRQ (in), MISO (in), MOSI (in), SCK (in)

## MOSFET_N_CH
designator *
footprint TO-220
footprint TO-3P
footprint SOT23
footprint TO-263-6L
pins: 1 G, 2 D, 3 s

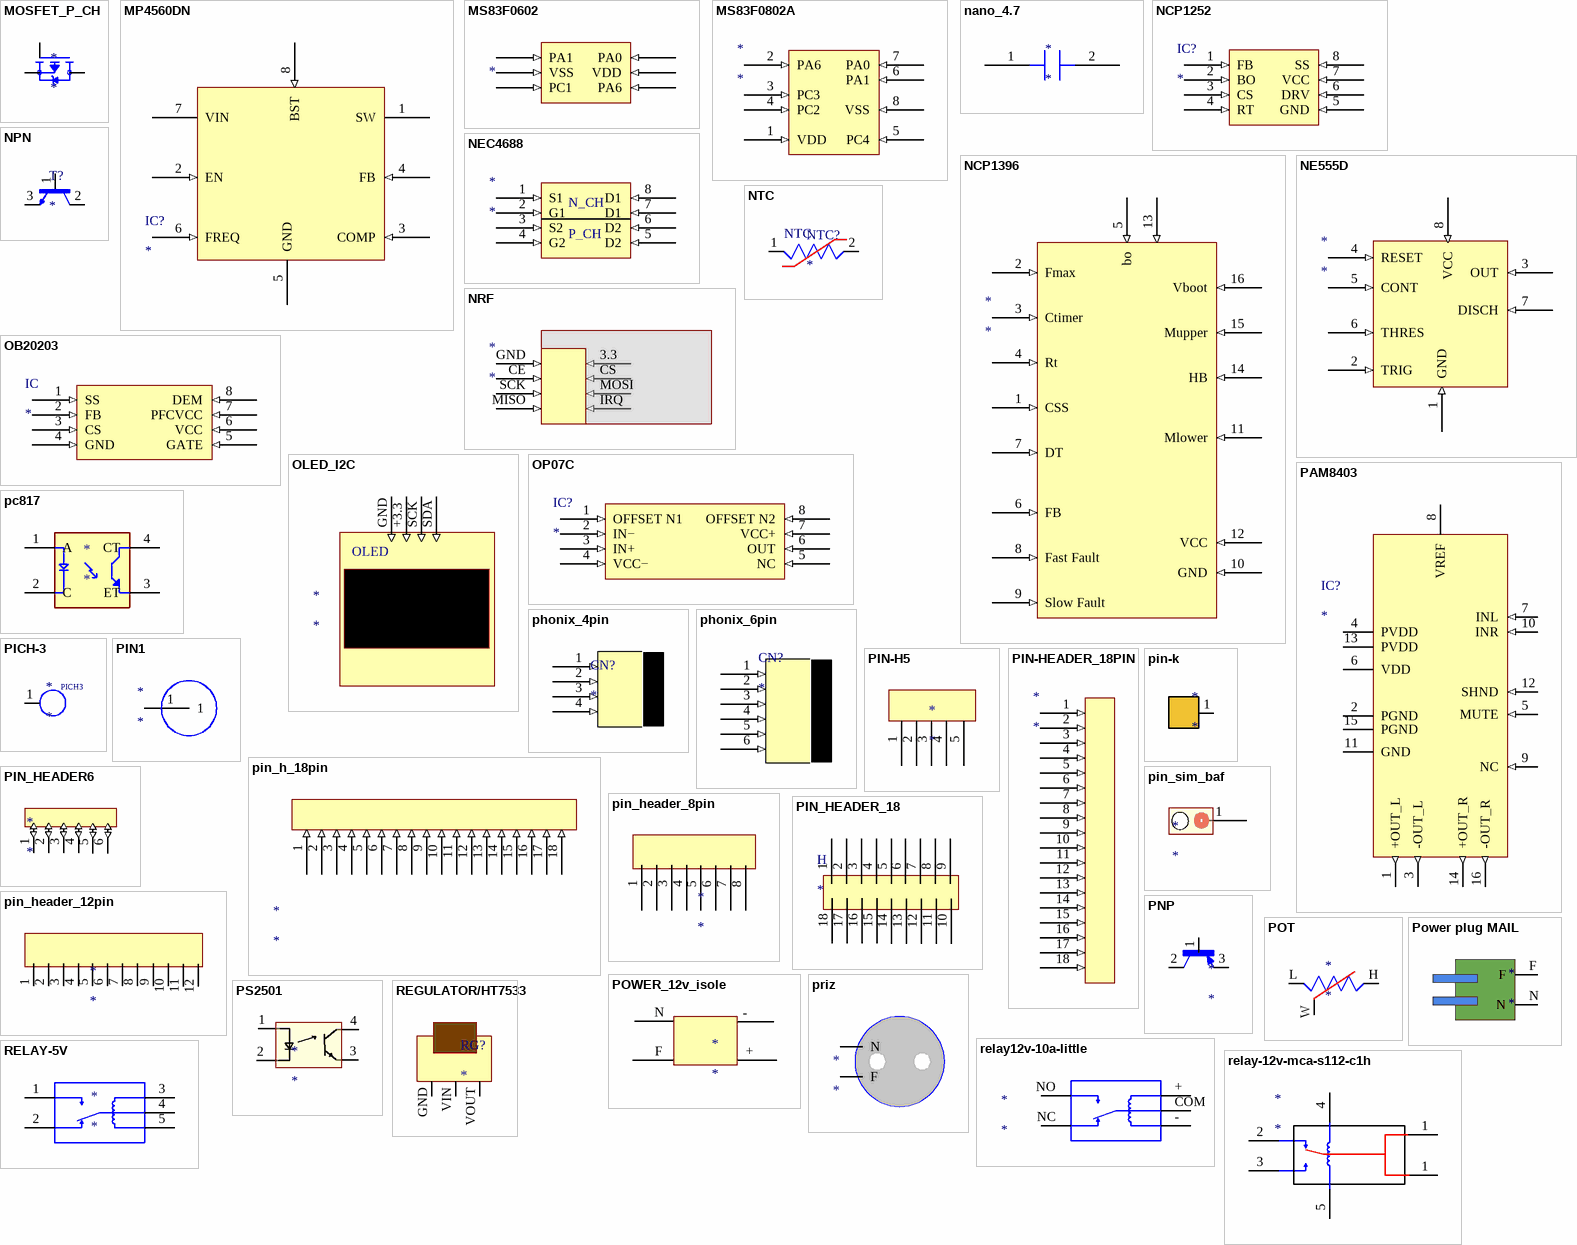
[diagram p4: symbols MOSFET_P_CH to relay-12v-mca-s112-c1h]

## MOSFET_P_CH
designator *
footprint AO3401A
pins: D, G, S

## MP4560DN
designator IC?
footprint SOP8_HIT
pins: 1 SW (power), 2 EN (in), 3 COMP (in), 4 FB (in), 5 GND (power), 6 FREQ (in), 7 VIN (power), 8 BST (in)

## MS83F0602
designator *
footprint MS83F0602
pins: 1 PA1 (in), 2 VSS (in), 3 PC1 (in), 4 PA6 (in), 5 VDD (in), 6 PA0 (in)

## MS83F0802A
designator *
footprint SOP-8
pins: 1 VDD (in), 2 PA6 (in), 3 PC3 (in), 4 PC2 (in), 5 PC4 (in), 6 PA1 (in), 7 PA0 (in), 8 VSS (in)

## nano_4.7
designator *
footprint nano
pins: 1, 2

## NCP1252
designator IC?
pins: 1 FB (in), 2 BO (in), 3 CS (in), 4 RT (in), 5 GND (in), 6 DRV (in), 7 VCC (in), 8 SS (in)

## NCP1396
designator *
footprint SOP16
pins: 1 CSS (in), 2 Fmax (in), 3 Ctimer (in), 4 Rt (in), 5 bo (in), 6 FB (in), 7 DT (in), 8 Fast Fault (in), 9 Slow Fault (in), 10 GND (in), 11 Mlower (in), 12 VCC (in), 13 (in), 14 HB (in), 15 Mupper (in), 16 Vboot (in)

## NE555D
designator *
footprint SOP-8
pins: 1 GND (in), 2 TRIG (in), 3 OUT (in), 4 RESET (in), 5 CONT (in), 6 THRES (in), 7 DISCH (in), 8 VCC (in)

## NEC4688
designator *
pins: 1 S1 (in), 2 G1 (in), 3 S2 (in), 4 G2 (in), 5 D2 (in), 6 D2 (in), 7 D1 (in), 8 D1 (in)
text: N_CH; P_CH

## NPN
designator T?
footprint TO220AB
footprint TO-225
footprint SOT23
footprint TO-3P
footprint TO-92
pins: 1 B, 2 C, 3 E

## NRF
designator *
footprint NRF24L01
pins: 3.3 (in), CE (in), CS (in), GND (in), IRQ (in), MISO (in), MOSI (in), SCK (in)

## NTC
designator NTC?
footprint NTC-11D
footprint NTC_XD_7
pins: 1, 2

## OB20203
designator IC
pins: 1 SS (in), 2 FB (in), 3 CS (in), 4 GND (in), 5 GATE (in), 6 VCC (in), 7 PFCVCC (in), 8 DEM (in)

## OLED_I2C
designator *
footprint OLED
pins: +3.3 (in), GND (in), SCK (in), SDA (in)
text: OLED

## OP07C
designator IC?
footprint SOP-8
pins: 1 OFFSET N1 (in), 2 IN− (in), 3 IN+ (in), 4 VCC− (in), 5 NC (in), 6 OUT (in), 7 VCC+ (in), 8 OFFSET N2 (in)

## PAM8403
designator IC?
STEREO AUDIO AMPLIFIER
footprint SOP16
pins: 1 +OUT_L (out), 2 PGND (power), 3 -OUT_L (out), 4 PVDD (power), 5 MUTE (in), 6 VDD (power), 7 INL (in), 8 VREF (power), 9 NC (in), 10 INR (in), 11 GND (power), 12 SHND (in), 13 PVDD (power), 14 +OUT_R (out), 15 PGND (power), 16 -OUT_R (out)

## pc817
designator *
footprint pc817
pins: 1 A, 2 C, 3 ET, 4 CT

## phonix_4pin
designator CN?
footprint phonix_4pin
pins: 1 (in), 2 (in), 3 (in), 4 (in)

## phonix_6pin
designator CN?
footprint PHONIX-6PIN
pins: 1 (in), 2 (in), 3 (in), 4 (in), 5 (in), 6 (in)

## PICH-3
designator *
footprint PICH3
pins: 1  
text: PICH3

## PIN1
designator *
footprint PIN1
footprint PIN_SIM_5mm
pins: 1

## PIN-H5
designator *
footprint PIN-H5
pins: 1 (oc), 2 (oc), 3 (oc), 4 (oc), 5 (oc)

## PIN-HEADER_18PIN
designator *
footprint PIN_HEADER_18PIN
pins: 1 (in), 2 (in), 3 (in), 4 (in), 5 (in), 6 (in), 7 (in), 8 (in), 9 (in), 10 (in), 11 (in), 12 (in), 13 (in), 14 (in), 15 (in), 16 (in), 17 (in), 18 (in)

## pin-k
designator *
footprint pin_k
pins: 1

## pin_h_18pin
designator *
footprint pin-h-18pin
pins: 1 (in), 2 (in), 3 (in), 4 (in), 5 (in), 6 (in), 7 (in), 8 (in), 9 (in), 10 (in), 11 (in), 12 (in), 13 (in), 14 (in), 15 (in), 16 (in), 17 (in), 18 (in)

## PIN_HEADER6
designator *
footprint pin_header_6pin
footprint xh-smd-6pin
pins: 1 (io), 2 (io), 3 (io), 4 (io), 5 (io), 6 (io)

## pin_header_8pin
designator *
footprint pin_header8
footprint PIN_H_0.8MM
pins: 1 (oc), 2 (oc), 3 (oc), 4 (oc), 5 (oc), 6 (oc), 7 (oc), 8 (oc)

## pin_header_12pin
designator *
footprint pin_headet_12pin
pins: 1 (oc), 2 (oc), 3 (oc), 4 (oc), 5 (oc), 6 (oc), 7 (oc), 8 (oc), 9 (oc), 10 (oc), 11 (oc), 12 (oc)

## PIN_HEADER_18
designator H
footprint PIN_H_18
pins: 1 (oc), 2 (oc), 3 (oc), 4 (oc), 5 (oc), 6 (oc), 7 (oc), 8 (oc), 9 (oc), 10 (oc), 11 (oc), 12 (oc), 13 (oc), 14 (oc), 15 (oc), 16 (oc), 17 (oc), 18 (oc)

## pin_sim_baf
designator *
footprint pin_sim_baf
pins: 1  

## PNP
designator *
footprint TO-225
footprint SOT23
pins: 1 B, 2 C, 3 E

## POT
designator *
footprint MULTY_TEREN
footprint VOLUM
footprint pot_v1
pins: H, L 1, W 1

## Power plug MAIL
designator *
pins: F, N

## POWER_12v_isole
designator *
footprint power_12V_ISOLE
pins: +  , -  , F  , N  

## priz
designator *
pins: F, N

## PS2501
designator *
footprint PS2501
pins: 1, 2, 3, 4

## REGULATOR/HT7533
designator RG?
footprint REGULATOR/HT7533
pins: GND, VIN, VOUT

## relay12v-10a-little
designator *
footprint RELAY12V-10A-LOTTLE
pins: + C1, - C2, COM C, NC, NO

## RELAY-5V
designator *
footprint RELAY-5V
pins: 1 NO, 2 NC, 3 C1, 4 C, 5 C2

## relay-12v-mca-s112-c1h
designator *
footprint relay-12v-mca-s112-c1h
pins: 1 NO, 1 NO, 2 NO, 3 NC, 4 NO, 5 NO

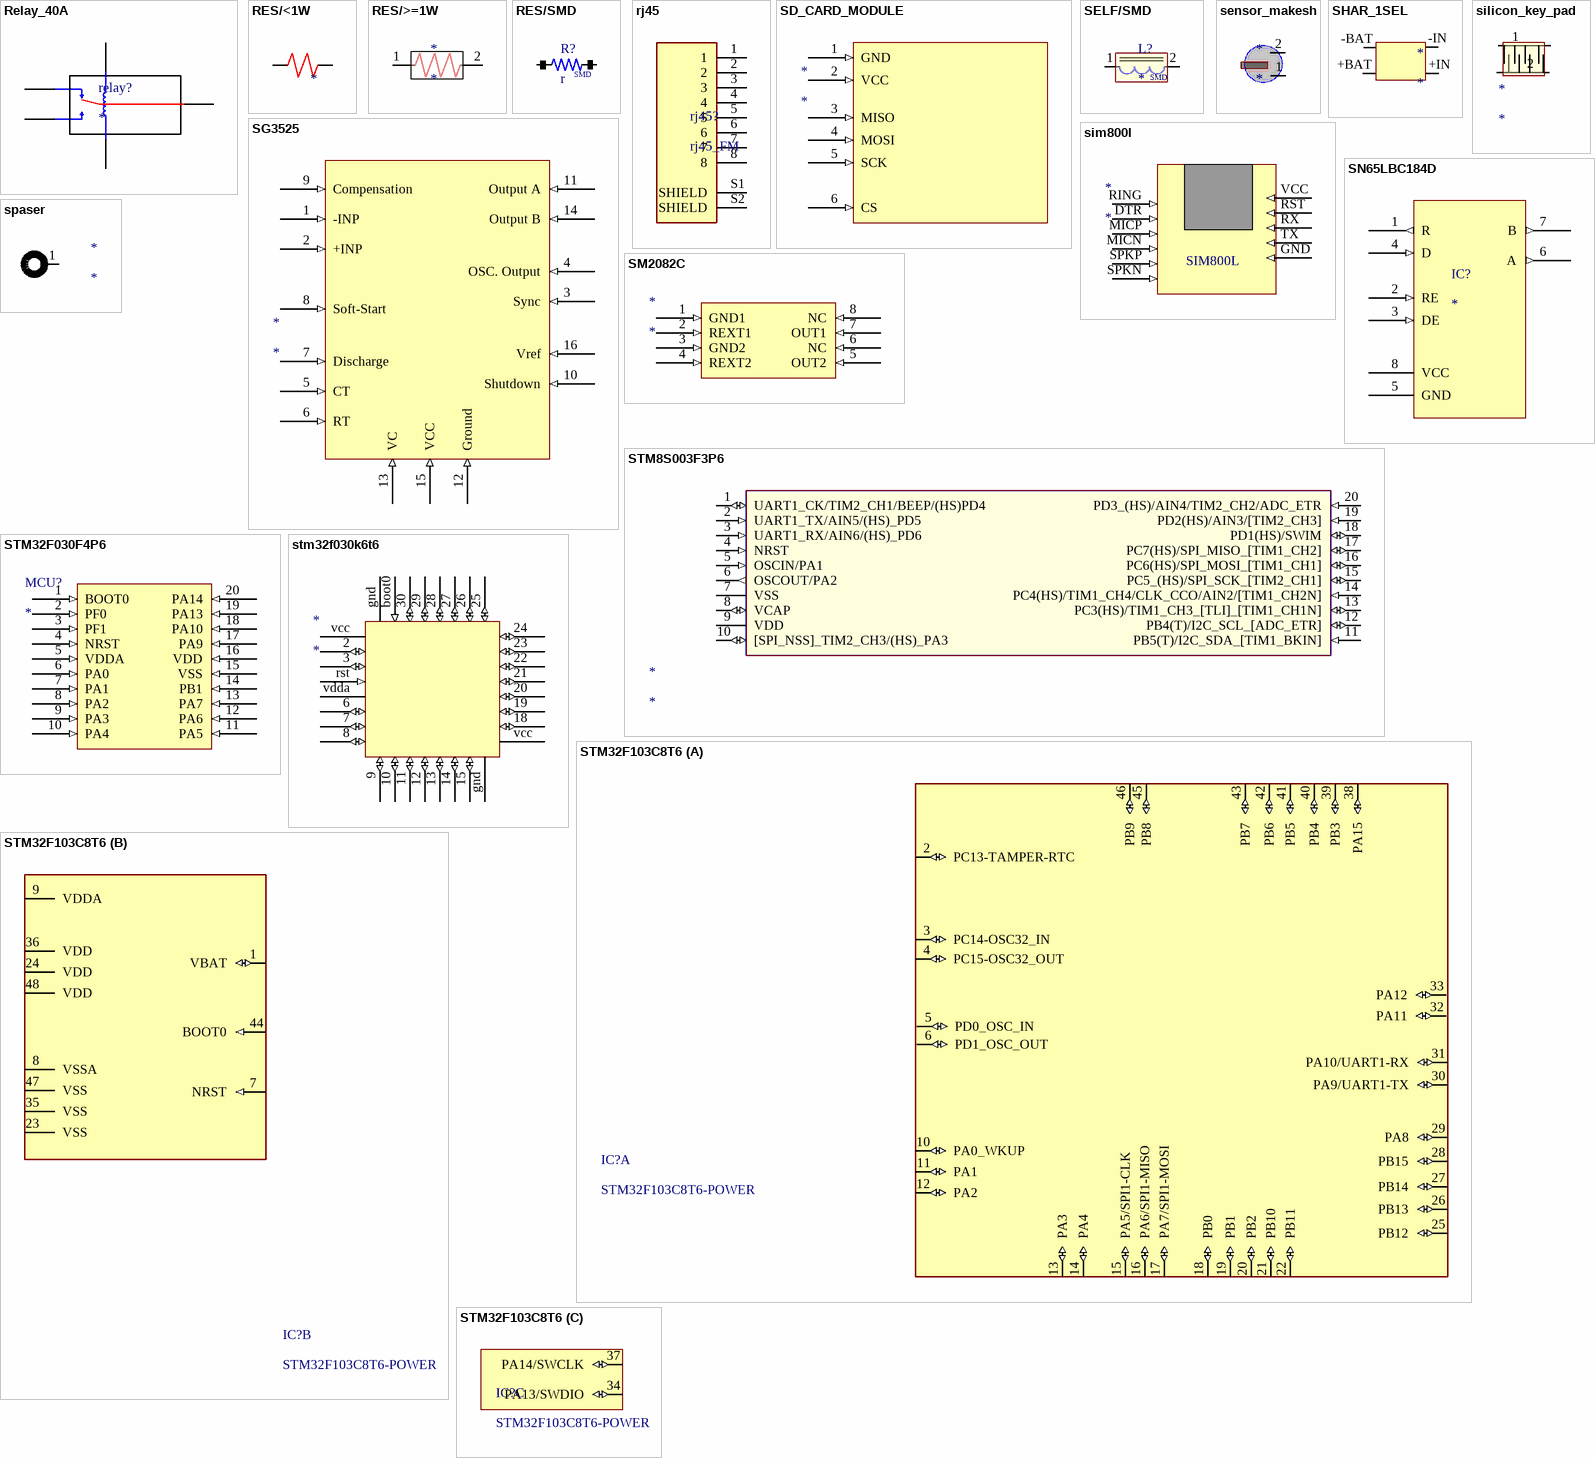
[diagram p5: symbols Relay_40A to STM32F103C8T6]

## Relay_40A
designator relay?
footprint RELAY_40A
footprint HLS-T90(15F)-C
pins: B1, B2, COM NO, NC NO, NO NC

## RES/<1W
designator ?
footprint RES/0.25W
pins: 1, 2  

## RES/>=1W
designator *
footprint RES/1W
footprint RES_1W
footprint shant_10mm
footprint RES/1W/ISTADE
footprint JAMPER_ISTAE_INVERTER
pins: 1, 2  

## RES/SMD
designator R?, comment r
footprint RES/0805
footprint RES/1206
footprint RES/0603
footprint res/2512
pins: 1, 2
text: SMD

## rj45
designator rj45?, comment rj45_FM
footprint RJ45-8Z
pins: 1, 2, 3, 4, 5, 6, 7, 8, S1 SHIELD, S2 SHIELD

## SD_CARD_MODULE
designator *
footprint SD_CARD_MODULE
pins: 1 GND (in), 2 VCC (in), 3 MISO (in), 4 MOSI (in), 5 SCK (in), 6 CS (in)

## SELF/SMD
designator L?
footprint SELF/1MH/SMD
footprint self_smd_lt
footprint SELF_SMD_L2
pins: 1, 2
text: SMD

## sensor_makesh
designator *
footprint sensor_makesh
pins: 1  , 2  

## SG3525
designator *
footprint TL494_SMD
pins: 1 -INP (in), 2 +INP (in), 3 Sync (in), 4 OSC. Output (in), 5 CT (in), 6 RT (in), 7 Discharge (in), 8 Soft-Start (in), 9 Compensation (in), 10 Shutdown (in), 11 Output A (in), 12 Ground (in), 13 VC (in), 14 Output B (in), 15 VCC (in), 16 Vref (in)

## SHAR_1SEL
designator *
footprint SHAR_1SEL
pins: +BAT, +IN  , -BAT, -IN  

## silicon_key_pad
designator *
footprint silicone keyboard_v1
pins: 1  , 2  

## sim800l
designator *
footprint SIM800L
pins: DTR (in), GND (in), MICN (in), MICP (in), RING (in), RST (in), RX (in), SPKN (in), SPKP (in), TX (in), VCC (in)
text: SIM800L

## SM2082C
designator *
footprint SOP-8
pins: 1 GND1 (in), 2 REXT1 (in), 3 GND2 (in), 4 REXT2 (in), 5 OUT2 (in), 6 NC (in), 7 OUT1 (in), 8 NC (in)

## SN65LBC184D
designator IC?
pins: 1 R (out), 2 RE (in), 3 DE (in), 4 D (in), 5 GND (power), 6 A (out), 7 B (out), 8 VCC (power)

## spaser
designator *
footprint spaser
pins: 1  

## STM8S003F3P6
designator *
footprint TSSOP20
pins: 1 UART1_CK/TIM2_CH1/BEEP/(HS)PD4 (io), 2 UART1_TX/AIN5/(HS)_PD5 (in), 3 UART1_RX/AIN6/(HS)_PD6 (in), 4 NRST (in), 5 OSCIN/PA1 (in), 6 OSCOUT/PA2 (out), 7 VSS (power), 8 VCAP (io), 9 VDD (power), 10 [SPI_NSS]_TIM2_CH3/(HS)_PA3 (io), 11 PB5(T)/I2C_SDA_[TIM1_BKIN] (in), 12 PB4(T)/I2C_SCL_[ADC_ETR] (io), 13 PC3(HS)/TIM1_CH3_[TLI]_[TIM1_CH1N] (io), 14 PC4(HS)/TIM1_CH4/CLK_CCO/AIN2/[TIM1_CH2N] (in), 15 PC5_(HS)/SPI_SCK_[TIM2_CH1] (io), 16 PC6(HS)/SPI_MOSI_[TIM1_CH1] (io), 17 PC7(HS)/SPI_MISO_[TIM1_CH2] (io), 18 PD1(HS)/SWIM (io), 19 PD2(HS)/AIN3/[TIM2_CH3] (in), 20 PD3_(HS)/AIN4/TIM2_CH2/ADC_ETR (in)

## STM32F030F4P6
designator MCU?
footprint TSSOP20
pins: 1 BOOT0 (in), 2 PF0 (in), 3 PF1 (in), 4 NRST (in), 5 VDDA (in), 6 PA0 (in), 7 PA1 (in), 8 PA2 (in), 9 PA3 (in), 10 PA4 (in), 11 PA5 (in), 12 PA6 (in), 13 PA7 (in), 14 PB1 (in), 15 VSS (in), 16 VDD (in), 17 PA9 (in), 18 PA10 (in), 19 PA13 (in), 20 PA14 (in)

## stm32f030k6t6
designator *
footprint stm32f030k6t6
pins: 2 (io), 3 (io), 6 (io), 7 (io), 8 (io), 9 (io), 10 (io), 11 (io), 12 (io), 13 (io), 14 (io), 15 (io), 18 (io), 19 (io), 20 (io), 21 (io), 22 (io), 23 (io), 24 (io), 25 (io), 26 (io), 27 (io), 28 (io), 29 (io), 30 (io), boot0 (in), gnd (power), gnd (power), rst (in), vcc (power), vcc (power), vdda (power)

## STM32F103C8T6
designator IC?, comment STM32F103C8T6-POWER
footprint LQFP48-7x7-0.50
part A pins: 2 PC13-TAMPER-RTC (io), 3 PC14-OSC32_IN (io), 4 PC15-OSC32_OUT (io), 5 PD0_OSC_IN (io), 6 PD1_OSC_OUT (io), 10 PA0_WKUP (io), 11 PA1 (io), 12 PA2 (io), 13 PA3 (io), 14 PA4 (io), 15 PA5/SPI1-CLK (io), 16 PA6/SPI1-MISO (io), 17 PA7/SPI1-MOSI (io), 18 PB0 (io), 19 PB1 (io), 20 PB2 (io), 21 PB10 (io), 22 PB11 (io), 25 PB12 (io), 26 PB13 (io), 27 PB14 (io), 28 PB15 (io), 29 PA8 (io), 30 PA9/UART1-TX (io), 31 PA10/UART1-RX (io), 32 PA11 (io), 33 PA12 (io), 38 PA15 (io), 39 PB3 (io), 40 PB4 (io), 41 PB5 (io), 42 PB6 (io), 43 PB7 (io), 45 PB8 (io), 46 PB9 (io)
part B pins: 1 VBAT (io), 7 NRST (in), 8 VSSA (power), 9 VDDA (power), 23 VSS (power), 24 VDD (power), 35 VSS (power), 36 VDD (power), 44 BOOT0 (in), 47 VSS (power), 48 VDD (power)
part C pins: 34 PA13/SWDIO (io), 37 PA14/SWCLK (io)

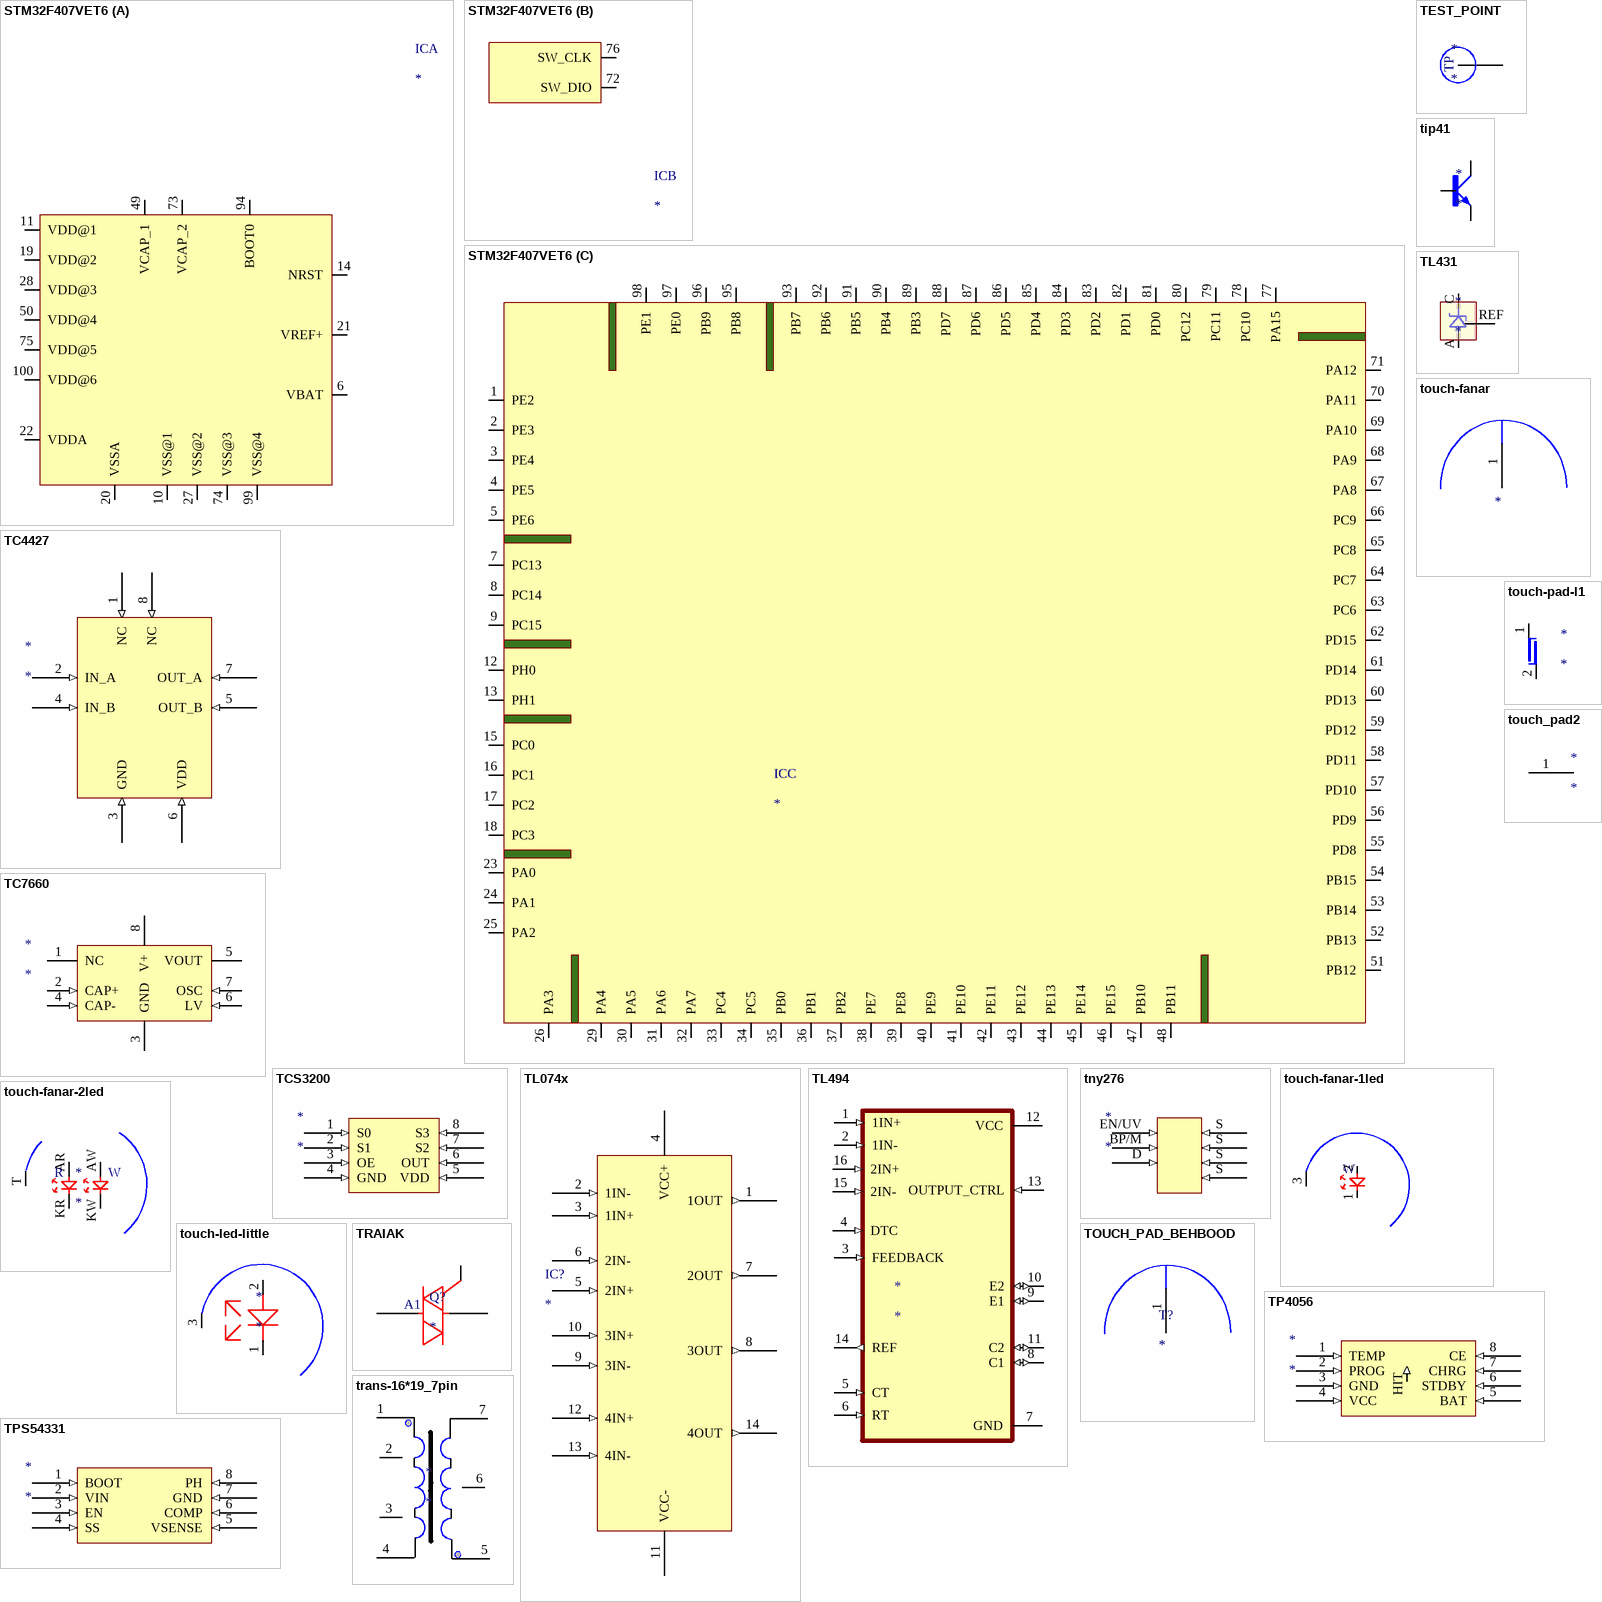
[diagram p6: symbols STM32F407VET6 to trans-16*19_7pin]

## STM32F407VET6
designator IC
part A pins: 6 VBAT (power), 10 VSS@1 (power), 11 VDD@1 (power), 14 NRST (power), 19 VDD@2 (power), 20 VSSA (power), 21 VREF+ (power), 22 VDDA (power), 27 VSS@2 (power), 28 VDD@3 (power), 49 VCAP_1 (power), 50 VDD@4 (power), 73 VCAP_2 (power), 74 VSS@3 (power), 75 VDD@5 (power), 94 BOOT0 (power), 99 VSS@4 (power), 100 VDD@6 (power)
part B pins: 72 SW_DIO (io), 76 SW_CLK (io)
part C pins: 1 PE2 (io), 2 PE3 (io), 3 PE4 (io), 4 PE5 (io), 5 PE6 (io), 7 PC13 (io), 8 PC14 (io), 9 PC15 (io), 12 PH0 (io), 13 PH1 (io), 15 PC0 (io), 16 PC1 (io), 17 PC2 (io), 18 PC3 (io), 23 PA0 (io), 24 PA1 (io), 25 PA2 (io), 26 PA3 (io), 29 PA4 (io), 30 PA5 (io), 31 PA6 (io), 32 PA7 (io), 33 PC4 (io), 34 PC5 (io), 35 PB0 (io), 36 PB1 (io), 37 PB2 (io), 38 PE7 (io), 39 PE8 (io), 40 PE9 (io), 41 PE10 (io), 42 PE11 (io), 43 PE12 (io), 44 PE13 (io), 45 PE14 (io), 46 PE15 (io), 47 PB10 (io), 48 PB11 (io), 51 PB12 (io), 52 PB13 (io), 53 PB14 (io), 54 PB15 (io), 55 PD8 (io), 56 PD9 (io), 57 PD10 (io), 58 PD11 (io), 59 PD12 (io), 60 PD13 (io), 61 PD14 (io), 62 PD15 (io), 63 PC6 (io), 64 PC7 (io), 65 PC8 (io), 66 PC9 (io), 67 PA8 (io), 68 PA9 (io), 69 PA10 (io), 70 PA11 (io), 71 PA12 (io), 77 PA15 (io), 78 PC10 (io), 79 PC11 (io), 80 PC12 (io), 81 PD0 (io), 82 PD1 (io), 83 PD2 (io), 84 PD3 (io), 85 PD4 (io), 86 PD5 (io), 87 PD6 (io), 88 PD7 (io), 89 PB3 (io), 90 PB4 (io), 91 PB5 (io), 92 PB6 (io), 93 PB7 (io), 95 PB8 (io), 96 PB9 (io), 97 PE0 (io), 98 PE1 (io)

## TC4427
designator *
footprint SOP-8
pins: 1 NC (in), 2 IN_A (in), 3 GND (in), 4 IN_B (in), 5 OUT_B (in), 6 VDD (in), 7 OUT_A (in), 8 NC (in)

## TC7660
designator *
footprint SOP-8
pins: 1 NC (oe), 2 CAP+ (in), 3 GND (power), 4 CAP- (in), 5 VOUT (power), 6 LV (in), 7 OSC (in), 8 V+ (power)

## TCS3200
designator *
footprint SOP-8
pins: 1 S0 (in), 2 S1 (in), 3 OE (in), 4 GND (in), 5 VDD (in), 6 OUT (in), 7 S2 (in), 8 S3 (in)

## TEST_POINT
designator *
footprint TEST_POINT_DIP
pins: 1 11
text: TP

## tip41
designator *
footprint tip41
footprint TIP41-RIGHT
pins: B, C, E

## TL074x
designator IC?
footprint SOP14
pins: 1 1OUT (out), 2 1IN- (in), 3 1IN+ (in), 4 VCC+ (power), 5 2IN+ (in), 6 2IN- (in), 7 2OUT (out), 8 3OUT (out), 9 3IN- (in), 10 3IN+ (in), 11 VCC- (power), 12 4IN+ (in), 13 4IN- (in), 14 4OUT (out)

## TL431
designator *
footprint TL431
pins: A  , C  , REF  

## TL494
designator *
footprint TL494
footprint SOP16
footprint TL494_SMD
pins: 1 1IN+ (in), 2 1IN- (in), 3 FEEDBACK (in), 4 DTC (in), 5 CT (in), 6 RT (in), 7 GND (power), 8 C1 (io), 9 E1 (io), 10 E2 (io), 11 C2 (io), 12 VCC (power), 13 OUTPUT_CTRL (in), 14 REF (out), 15 2IN- (in), 16 2IN+ (in)

## tny276
designator *
footprint TNY276
pins: BP/M (in), D (in), EN/UV (in), S (in), S (in), S (in), S (in)

## touch-fanar
designator ?
footprint fanar-touch
pins: 1  

## touch-fanar-1led
designator *
footprint FANAR-TOUCH-1LED
footprint FANAR_FAN
pins: 1, 2, 3  
text: W

## touch-fanar-2led
designator *
footprint fanar-touch-2led
footprint FANAR_TOUCH_2835*2
pins: AR, AW, KR, KW, T  
text: R; W

## touch-led-little
designator *
footprint little-fanar-led
pins: 1, 2, 3  

## touch-pad-l1
designator *
footprint touch_pad-l1
pins: 1  , 2  

## touch_pad2
designator *
footprint touch-pad2
footprint touch-pad3
footprint touch-pad-2.1
footprint touch-pad-3.1
footprint TOUCH_PAD_CIR_V1
footprint touch_pad_linear_v3
footprint pad_helal
pins: 1  

## TOUCH_PAD_BEHBOOD
designator T?
footprint TOUCH_PAD_BEBOOD_V1
footprint ki1
footprint ki2
footprint ki3
pins: 1  

## TP4056
designator *
footprint SOP8_HIT
pins: 1 TEMP (in), 2 PROG (in), 3 GND (in), 4 VCC (in), 5 BAT (in), 6 STDBY (in), 7 CHRG (in), 8 CE (in), HIT (in)

## TPS54331
designator *
footprint SOP8_HIT
pins: 1 BOOT (in), 2 VIN (in), 3 EN (in), 4 SS (in), 5 VSENSE (in), 6 COMP (in), 7 GND (in), 8 PH (in)

## TRAIAK
designator Q?
footprint TO-92-TRAIAK
pins: 2, 3 A1, 3

## trans-16*19_7pin
designator *
footprint Model Name (Footprint not found)
footprint trans-16*19-7pin
pins: 1 0, 2 0, 3 0, 4 0, 5 0, 6 0, 7 0

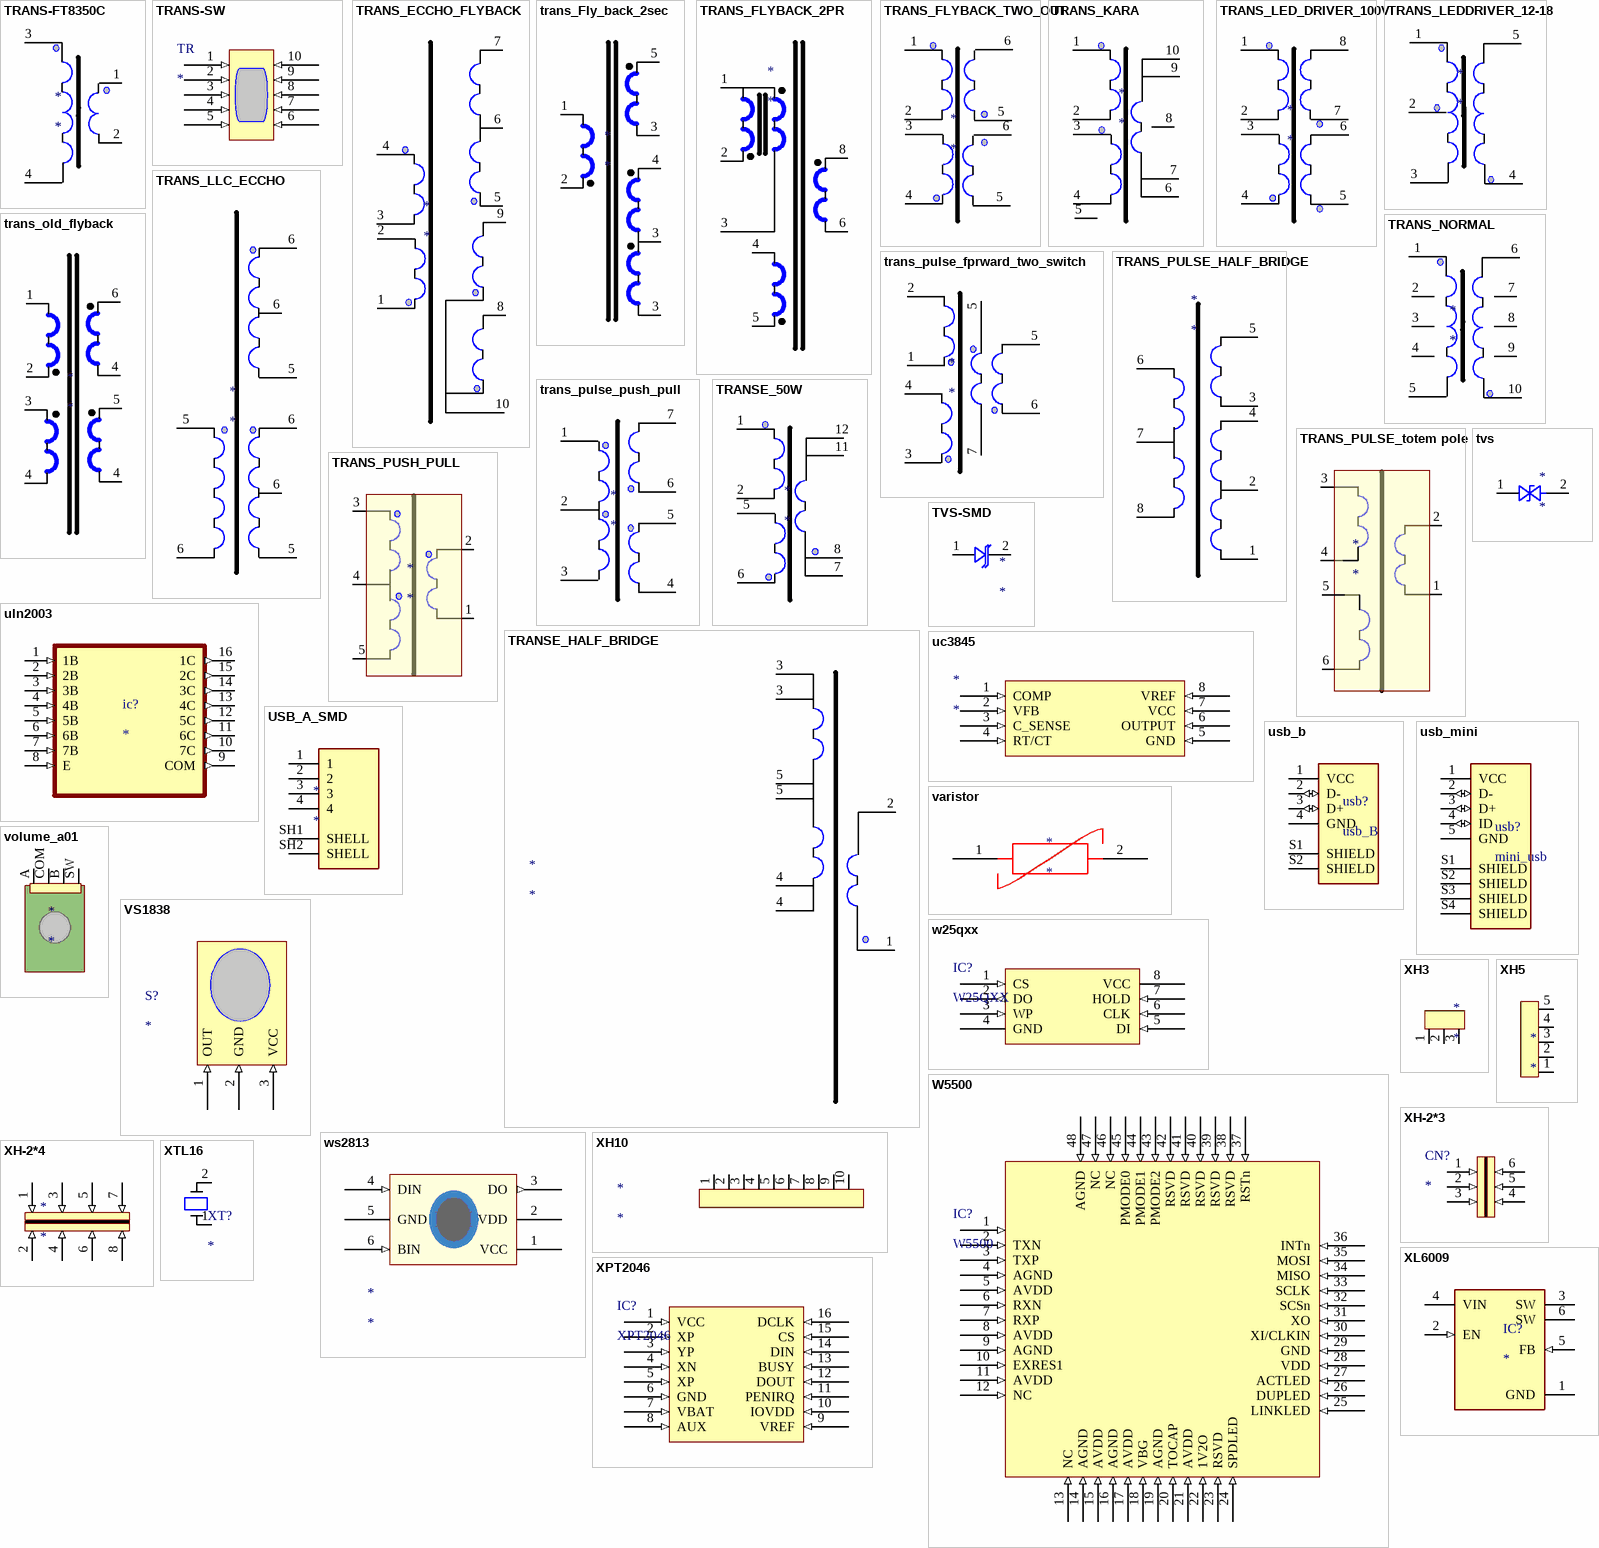
[diagram p7: symbols TRANS-FT8350C to XTL16]

## TRANS-FT8350C
designator *
footprint TRANS-FT8350C
footprint EI 3329D
pins: 1 0, 2 0, 3 0, 4 0

## TRANS-SW
designator TR
pins: 1 (in), 2 (in), 3 (in), 4 (in), 5 (in), 6 (in), 7 (in), 8 (in), 9 (in), 10 (in)

## TRANS_ECCHO_FLYBACK
designator *
footprint EE33-FLYBACK
pins: 1 0, 2 0, 3 0, 4 0, 5 0, 6 0, 7 0, 8 0, 9 0, 10 0

## trans_Fly_back_2sec
designator *
footprint trans-16*19-7pin
footprint EE20-
pins: 1 0, 2 0, 3 0, 3 0, 3 0, 4 0, 5 0

## TRANS_FLYBACK_2PR
designator *
footprint EI28
pins: 1 0, 2 0, 3 0, 4 0, 5 0, 6 0, 8 0

## TRANS_FLYBACK_TWO_OUT
designator *
pins: 1 0, 2 0, 3 0, 4 0, 5 0, 5 0, 6 0, 6 0

## TRANS_KARA
designator *
footprint TRANS_KARA
pins: 1 0, 2 0, 3 0, 4 0, 5 0, 6 0, 7 0, 8 0, 9 0, 10 0

## TRANS_LED_DRIVER_100V
designator *
pins: 1 0, 2 0, 3 0, 4 0, 5 0, 6 0, 7 0, 8 0

## TRANS_LEDDRIVER_12-18
designator *
footprint TRANS_LEDDRIVER_1218
pins: 1 0, 2 0, 3 0, 4 0, 5 0

## TRANS_LLC_ECCHO
designator *
pins: 5 0, 5 0, 5 0, 6 0, 6 0, 6 0, 6 0, 6 0

## TRANS_NORMAL
designator *
footprint EE20-
pins: 1 0, 2 0, 3 0, 4 0, 5 0, 6 0, 7 0, 8 0, 9 0, 10 0

## trans_old_flyback
designator *
pins: 1 0, 2 0, 3 0, 4 0, 4 0, 4 0, 5 0, 6 0

## trans_pulse_fprward_two_switch
designator *
footprint trans_16-19-2
pins: 1 0, 2 0, 3 0, 4 0, 5 0, 5 0, 6 0, 7 0

## TRANS_PULSE_HALF_BRIDGE
designator *
pins: 1 0, 2 0, 3 0, 4 0, 5 0, 6 0, 7 0, 8 0

## trans_pulse_push_pull
designator *
footprint trans_16-19-2
pins: 1 0, 2 0, 3 0, 4 0, 5 0, 6 0, 7 0

## TRANS_PULSE_totem pole
designator *
pins: 1 0, 2 0, 3 0, 4 0, 5 0, 6 0

## TRANS_PUSH_PULL
designator *
footprint trans-16*19-7pin
footprint EI28
footprint EE-42-21-15
pins: 1 0, 2 0, 3 0, 4 0, 5 0

## TRANSE_50W
designator *
footprint TRANSE_50W
footprint TRANSE_LED40W
pins: 1 0, 2 0, 5 0, 6 0, 7 0, 8 0, 11 0, 12 0

## TRANSE_HALF_BRIDGE
designator *
footprint EE-40-16
footprint TRANS_HALF_BRIDGE_24V/10A
pins: 1 0, 2 0, 3 0, 3 0, 4 0, 4 0, 5 0, 5 0

## tvs
designator *
footprint tvs
pins: 1  , 2  

## TVS-SMD
designator *
footprint TVS-5V-SMD
pins: 1  , 2  

## uc3845
designator *
footprint SOP-8
footprint DIP8
pins: 1 COMP (in), 2 VFB (in), 3 C_SENSE (in), 4 RT/CT (in), 5 GND (in), 6 OUTPUT (in), 7 VCC (in), 8 VREF (in)

## uln2003
designator ic?
footprint SOP16
pins: 1 1B (in), 2 2B (in), 3 3B (in), 4 4B (in), 5 5B (in), 6 6B (in), 7 7B (in), 8 E (in), 9 COM (out), 10 7C (out), 11 6C (out), 12 5C (out), 13 4C (out), 14 3C (out), 15 2C (out), 16 1C (out)

## USB_A_SMD
designator *
footprint USB_A_SMD
footprint USB_A_DIP
footprint USB_A_DIP_SAM
pins: 1, 2, 3, 4, SH1 SHELL, SH2 SHELL

## usb_b
designator usb?, comment usb_B
footprint usb_b
pins: 1 VCC (power), 2 D- (io), 3 D+ (io), 4 GND (power), S1 SHIELD, S2 SHIELD

## usb_mini
designator usb?, comment mini_usb
footprint usb_mini_smd
pins: 1 VCC (power), 2 D- (io), 3 D+ (io), 4 ID (io), 5 GND (power), S1 SHIELD, S2 SHIELD, S3 SHIELD, S4 SHIELD

## varistor
designator *
footprint varistor
footprint VAR_7D
pins: 1, 2

## volume_a01
designator *
footprint volume_a01
pins: A (oc), B (oc), COM (oc), SW (oc)

## VS1838
designator S?
footprint VS1838
pins: 1 OUT (in), 2 GND (in), 3 VCC (in)

## w25qxx
designator IC?, comment W25QXX
footprint SOIC-8PIN-280MIL
pins: 1 CS (in), 2 DO (out), 3 WP (in), 4 GND (power), 5 DI (in), 6 CLK (in), 7 HOLD (in), 8 VCC (power)

## W5500
designator IC?
footprint LQFP48
pins: 1 (in), 2 TXN (in), 3 TXP (in), 4 AGND (in), 5 AVDD (in), 6 RXN (in), 7 RXP (in), 8 AVDD (in), 9 AGND (in), 10 EXRES1 (in), 11 AVDD (in), 12 NC (in), 13 NC (in), 14 AGND (in), 15 AVDD (in), 16 AGND (in), 17 AVDD (in), 18 VBG (in), 19 AGND (in), 20 TOCAP (in), 21 AVDD (in), 22 1V2O (in), 23 RSVD (in), 24 SPDLED (in), 25 LINKLED (in), 26 DUPLED (in), 27 ACTLED (in), 28 VDD (in), 29 GND (in), 30 XI/CLKIN (in), 31 XO (in), 32 SCSn (in), 33 SCLK (in), 34 MISO (in), 35 MOSI (in), 36 INTn (in), 37 RSTn (in), 38 RSVD (in), 39 RSVD (in), 40 RSVD (in), 41 RSVD (in), 42 RSVD (in), 43 PMODE2 (in), 44 PMODE1 (in), 45 PMODE0 (in), 46 NC (in), 47 NC (in), 48 AGND (in)

## ws2813
designator *
footprint WS2813
pins: 1 VCC (power), 2 VDD (power), 3 DO (out), 4 DIN (in), 5 GND (power), 6 BIN (in)

## XH3
designator *
footprint XH3
footprint XH3_BIG
pins: 1 (oc), 2 (oc), 3 (oc)

## XH5
designator *
footprint XH5
pins: 1 (oc), 2 (oc), 3 (oc), 4 (oc), 5 (oc)

## XH10
designator *
footprint XH-10PIN
pins: 1 (oc), 2 (oc), 3 (oc), 4 (oc), 5 (oc), 6 (oc), 7 (oc), 8 (oc), 9 (oc), 10 (oc)

## XH-2*3
designator CN?
footprint xh-2*3
pins: 1 (in), 2 (in), 3 (in), 4 (in), 5 (in), 6 (in)

## XH-2*4
designator *
footprint xh-2*4
pins: 1 (in), 2 (in), 3 (in), 4 (in), 5 (in), 6 (in), 7 (in), 8 (in)

## XL6009
designator IC?
footprint TO-263-5L
pins: 1 GND (power), 2 EN (in), 3 SW (power), 4 VIN (power), 5 FB (in), 6 SW (power)

## XPT2046
designator IC?
footprint TSSOP16
pins: 1 VCC (in), 2 XP (in), 3 YP (in), 4 XN (in), 5 XP (in), 6 GND (in), 7 VBAT (in), 8 AUX (in), 9 VREF (in), 10 IOVDD (in), 11 PENIRQ (in), 12 DOUT (in), 13 BUSY (in), 14 DIN (in), 15 CS (in), 16 DCLK (in)

## XTL16
designator XT?
footprint XTL16MH
pins: 1  , 2  

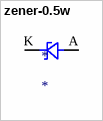
[diagram p8: symbol zener-0.5w]

## zener-0.5w
designator *
footprint DIOD/RS1J
footprint DIOD/1N4007/DIP
footprint mini_melf
pins: A  , K  